# Altium schematic symbol library BeagleBone-AI_Library.SchLib: 164 symbols (part 13 of 14)
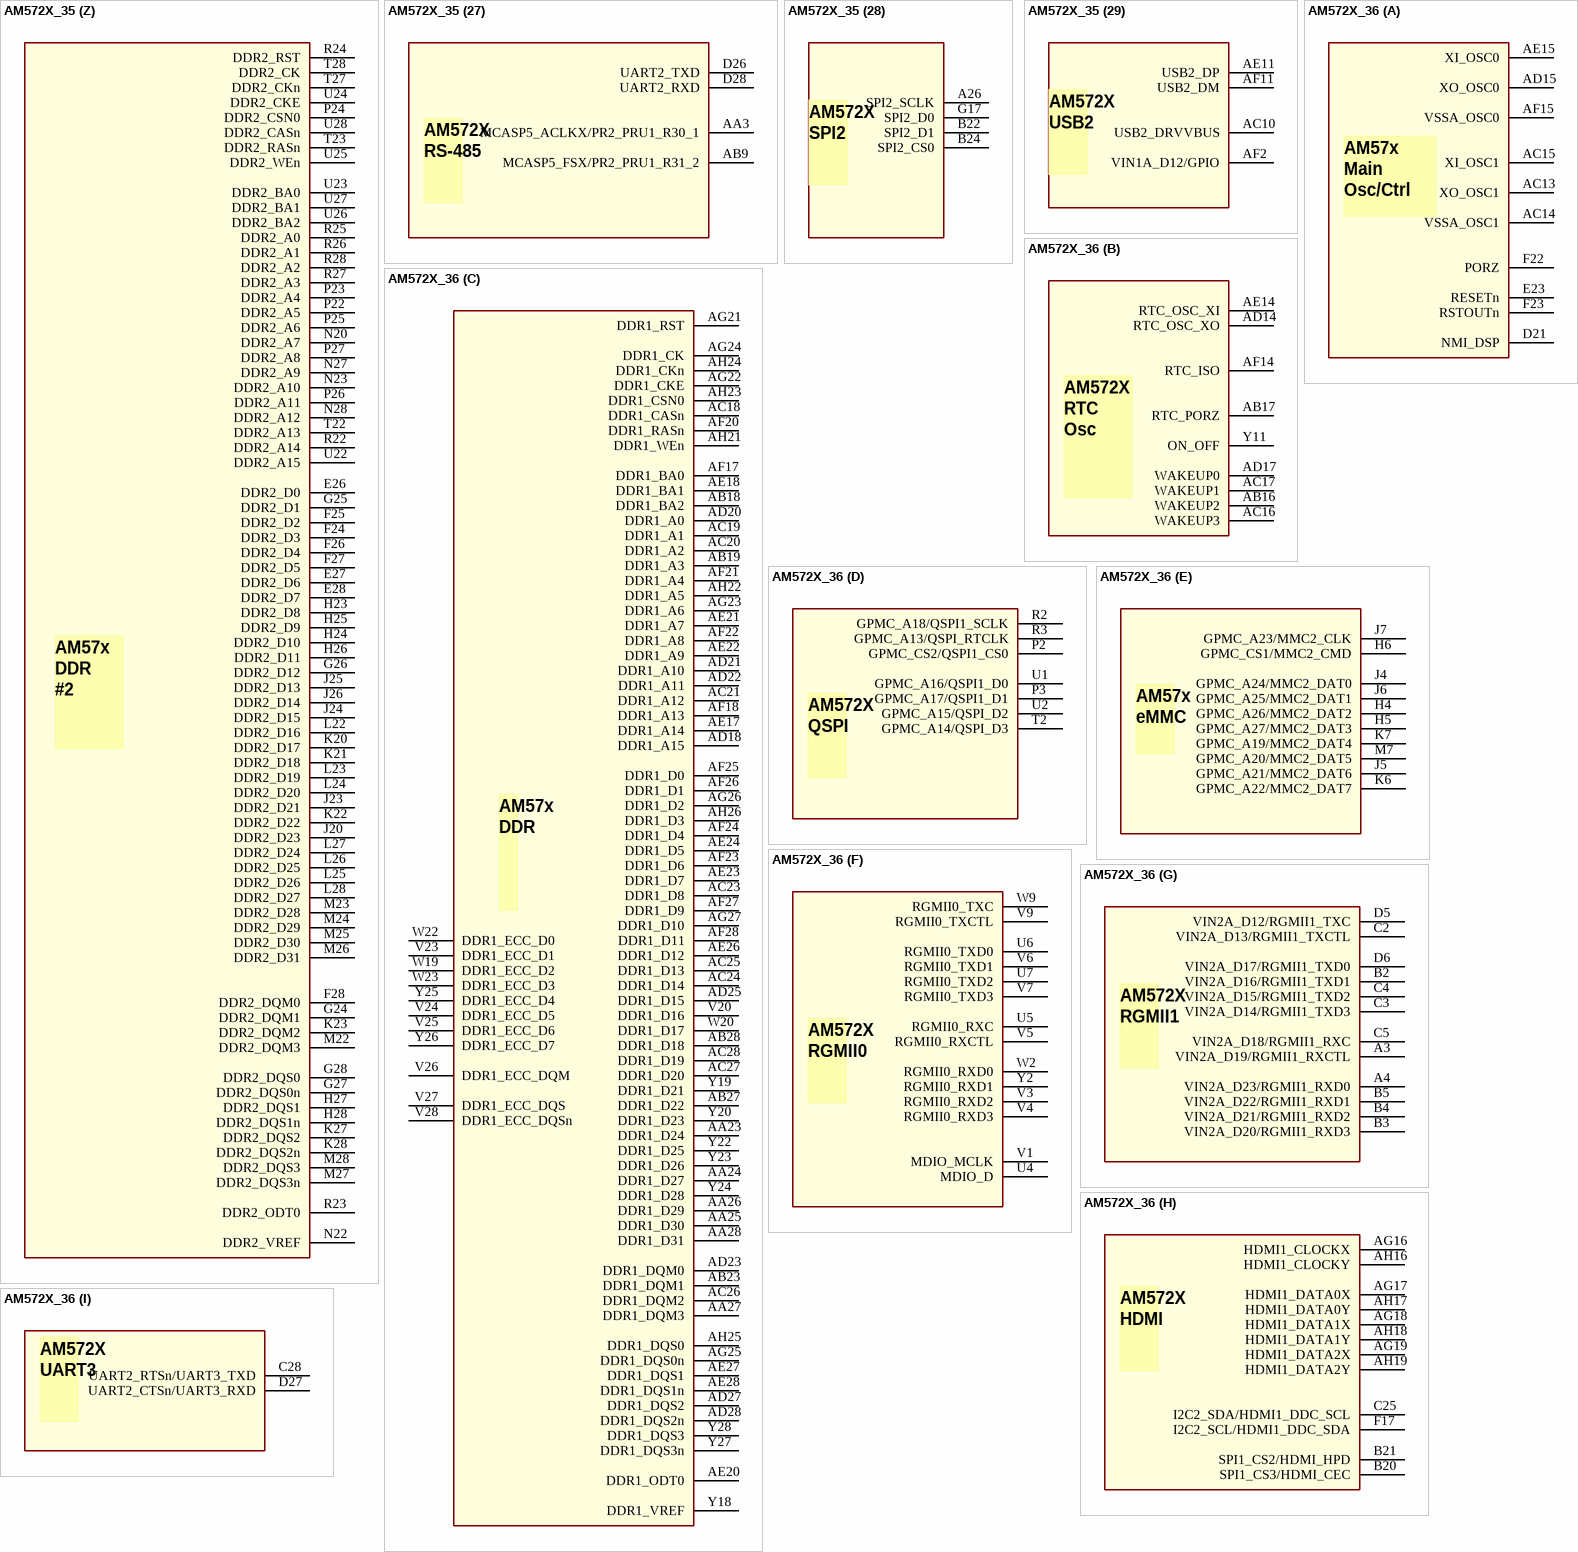
[diagram p173: symbols AM572X_35 to AM572X_36]

## AM572X_35
designator U?
Vendor: TI
footprint BGA23X23-760-117M
part A pins: AC13 XO_OSC1, AC14 VSSA_OSC1 (power), AC15 XI_OSC1, AD15 XO_OSC0, AE15 XI_OSC0, AF15 VSSA_OSC0 (power), D21 NMI_DSP, E23 RESETn, F22 PORZ, F23 RSTOUTn
part B pins: AB16 WAKEUP2, AB17 RTC_PORZ, AC16 WAKEUP3, AC17 WAKEUP1, AD14 RTC_OSC_XO, AD17 WAKEUP0, AE14 RTC_OSC_XI, AF14 RTC_ISO, Y11 ON_OFF
part C pins: AA23 DDR1_D24, AA24 DDR1_D27, AA25 DDR1_D30, AA26 DDR1_D29, AA27 DDR1_DQM3, AA28 DDR1_D31, AB18 DDR1_BA2, AB19 DDR1_A3, AB23 DDR1_DQM1, AB27 DDR1_D22, AB28 DDR1_D18, AC18 DDR1_CASn, AC19 DDR1_A1, AC20 DDR1_A2, AC21 DDR1_A12, AC23 DDR1_D8, AC24 DDR1_D14, AC25 DDR1_D13, AC26 DDR1_DQM2, AC27 DDR1_D20, AC28 DDR1_D19, AD18 DDR1_A15, AD20 DDR1_A0, AD21 DDR1_A10, AD22 DDR1_A11, AD23 DDR1_DQM0, AD25 DDR1_D15, AD27 DDR1_DQS2, AD28 DDR1_DQS2n, AE17 DDR1_A14, AE18 DDR1_BA1, AE20 DDR1_ODT0, AE21 DDR1_A7, AE22 DDR1_A9, AE23 DDR1_D7, AE24 DDR1_D5, AE26 DDR1_D12, AE27 DDR1_DQS1, AE28 DDR1_DQS1n, AF17 DDR1_BA0, AF18 DDR1_A13, AF20 DDR1_RASn, AF21 DDR1_A4, AF22 DDR1_A8, AF23 DDR1_D6, AF24 DDR1_D4, AF25 DDR1_D0, AF26 DDR1_D1, AF27 DDR1_D9, AF28 DDR1_D11, AG21 DDR1_RST, AG22 DDR1_CKE, AG23 DDR1_A6, AG24 DDR1_CK, AG25 DDR1_DQS0n, AG26 DDR1_D2, AG27 DDR1_D10, AH21 DDR1_WEn, AH22 DDR1_A5, AH23 DDR1_CSN0, AH24 DDR1_CKn, AH25 DDR1_DQS0, AH26 DDR1_D3, V20 DDR1_D16, V23 DDR1_ECC_D1, V24 DDR1_ECC_D5, V25 DDR1_ECC_D6, V26 DDR1_ECC_DQM, V27 DDR1_ECC_DQS, V28 DDR1_ECC_DQSn, W19 DDR1_ECC_D2, W20 DDR1_D17, W22 DDR1_ECC_D0, W23 DDR1_ECC_D3, Y18 DDR1_VREF, Y19 DDR1_D21, Y20 DDR1_D23, Y22 DDR1_D25, Y23 DDR1_D26, Y24 DDR1_D28, Y25 DDR1_ECC_D4, Y26 DDR1_ECC_D7, Y27 DDR1_DQS3n, Y28 DDR1_DQS3
part D pins: P2 GPMC_CS2/QSPI1_CS0, P3 GPMC_A17/QSPI1_D1, R2 GPMC_A18/QSPI1_SCLK, R3 GPMC_A13/QSPI_RTCLK, T2 GPMC_A14/QSPI_D3, U1 GPMC_A16/QSPI1_D0, U2 GPMC_A15/QSPI_D2
part E pins: H4 GPMC_A26/MMC2_DAT2, H5 GPMC_A27/MMC2_DAT3, H6 GPMC_CS1/MMC2_CMD, J4 GPMC_A24/MMC2_DAT0, J5 GPMC_A21/MMC2_DAT6, J6 GPMC_A25/MMC2_DAT1, J7 GPMC_A23/MMC2_CLK, K6 GPMC_A22/MMC2_DAT7, K7 GPMC_A19/MMC2_DAT4, M7 GPMC_A20/MMC2_DAT5
part F pins: U4 MDIO_D, U5 RGMII0_RXC, U6 RGMII0_TXD0, U7 RGMII0_TXD2, V1 MDIO_MCLK, V3 RGMII0_RXD2, V4 RGMII0_RXD3, V5 RGMII0_RXCTL, V6 RGMII0_TXD1, V7 RGMII0_TXD3, V9 RGMII0_TXCTL, W2 RGMII0_RXD0, W9 RGMII0_TXC, Y2 RGMII0_RXD1
part G pins: A3 VIN2A_D19/RGMII1_RXCTL, A4 VIN2A_D23/RGMII1_RXD0, B2 VIN2A_D16/RGMII1_TXD1, B3 VIN2A_D20/RGMII1_RXD3, B4 VIN2A_D21/RGMII1_RXD2, B5 VIN2A_D22/RGMII1_RXD1, C2 VIN2A_D13/RGMII1_TXCTL, C3 VIN2A_D14/RGMII1_TXD3, C4 VIN2A_D15/RGMII1_TXD2, C5 VIN2A_D18/RGMII1_RXC, D5 VIN2A_D12/RGMII1_TXC, D6 VIN2A_D17/RGMII1_TXD0
part H pins: AG16 HDMI1_CLOCKX, AG17 HDMI1_DATA0X, AG18 HDMI1_DATA1X, AG19 HDMI1_DATA2X, AH16 HDMI1_CLOCKY, AH17 HDMI1_DATA0Y, AH18 HDMI1_DATA1Y, AH19 HDMI1_DATA2Y, B20 SPI1_CS3/HDMI_CEC, B21 SPI1_CS2/HDMI_HPD, C25 I2C2_SDA/HDMI1_DDC_SCL, F17 I2C2_SCL/HDMI1_DDC_SDA
part I pins: C28 UART2_RTSn/UART3_TXD, D27 UART2_CTSn/UART3_RXD
part J pins: F2 VIN2A_D0/PR1_UART0_RXD, F3 VIN2A_D1/PR1_UART0_TXD, F4 VIN2A_D5/PR1_PRU1_R30_2, U3 RMII50MHZCLK/PR2_GPIO
part K pins: V2 UART3_RXD/PR1_MII0_RXDV, Y1 UART3_TXD/PR1_MII0_MR0CLK
part L pins: C1 VIN2A_D6/PR1_MII_MT1_CLK, D3 VIN2A_D10/PR1_MDIO_MDCLK, E4 VIN2A_D7/PR1_MII1_TXEN, E6 VIN2A_D9/PR1_MII1_TXD2, F5 VIN2A_D8/PR1_MII1_TXD3, F6 VIN2A_D11/PR1_MDIO_DATA
part M pins: A11 MCASP1_AXR9/PR2_MII0_TXD3, A12 MCASP1_AXR11/PR2_MII0_TXD1, A13 MCASP1_AXR13/PR2_MII_MR0_CLK, A16 MCASP2_AXR3/PR2_MII0_RXLINK, A18 MCASP2_FSX/PR2_MII0_RXD1, A19 MCASP2_ACLKX/PR2_MII0_RXD2, B12 MCASP1_AXR8/PR2_MII0_TXEN, B13 MCASP1_AXR10/PR2_MII0_TXD2, B18 MCASP3_ACLKX/PR2_MII0_CRS, C14 MCASP1_ACLKX/PR2_MDIO_MDCLK, C15 MCASP2_AXR2/PR2_MII0_RXD0, D14 MCASP1_FSX/PR2_MDIO_DATA, E14 MCASP1_AXR12/PR2_MII0_TXD0, F12 MCASP1_AXR1/PR2_MII_MT0_CLK, F14 MCASP1_AXR15/PR2_MII0_RXD3, F15 MCASP3_FSX/PR2_MII0_COL, G12 MCASP1_AXR0/PR2_MII0_RXER, G14 MCASP1_AXR14/PR2_MII0_RXDV
part N pins: AB4 GPIO6_11/PR2_MII1_TXEN, AB5 MMC3_DAT7/PR2_MII1_RXD0, AB8 MMC3_DAT6/PR2_MII1_RXD1, AC3 MMC3_DAT3/PR2_MII1_RXDV, AC4 MMC3_CMD/PR2_MII1_TXD2, AC5 GPIO6_10/PR2_MII_MT1_CLK, AC6 MMC3_DAT1/PR2_MII1_TXD0, AC7 MMC3_DAT0/PR2_MII1_TXD1, AC8 MMC3_DAT4/PR2_MII1_RXD3, AC9 MMC3_DAT2/PR2_MII_MR1_CLK, AD4 MMC3_CLK/PR2_MII1_TXD3, AD6 MMC3_DAT5/PR2_MII1_RXD2, B19 MCASP3_AXR0/PR2_MII1_RXER, C17 MCASP3_AXR1/PR2_MII1_RXLINK, D18 XREF_CLK0/PR2_MII1_COL, E17 XREF_CLK1/PR2_MII1_CRS
part O pins: AA5 MMC1_DAT2, AA6 MMC1_DAT0, W6 MMC1_CLK, W7 MMC1_SDCD, Y3 MMC1_DAT3, Y4 MMC1_DAT1, Y6 MMC1_CMD, Y9 MMC1_SDWP
part P pins: AG13 PCIE_RXN0, AG14 PCIE_TXN0, AG15 LJCB_CLKP, AH13 PCIE_RXP0, AH14 PCIE_TXP0, AH15 LJCB_CLKN
part Q pins: AB10 USB1_DRVVBUS, AC11 USB_TXN0, AC12 USB1_DM, AD11 USB_TXP0, AD12 USB1_DP, AE12 USB_RXP0, AF12 USB_RXN0
part R pins: C20 I2C1_SCL, C21 I2C1_SDA
part S pins: D20 TRSTn, D23 TDI, D24 EMU1, E18 RTCK, E20 TCK, F18 TMS, F19 TDO, G21 EMU0
part T pins: A5 VOUT1_D12, A7 VOUT1_D18, A8 VOUT1_D19, A9 VOUT1_D21, A10 VOUT1_D23, B7 VOUT1_D16, B8 VOUT1_D17, B9 VOUT1_D22, B10 VOUT1_DE, C6 VOUT1_D13, C7 VOUT1_D15, C8 VOUT1_D14, C9 VOUT1_D20, C11 VOUT1_HSYNC, D1 VIN2A_D2/eCAP1_IN_PWM1, D7 VOUT1_D10, D8 VOUT1_D11, D9 VOUT1_D9, D11 VOUT1_CLK, E7 VOUT1_D7, E8 VOUT1_D8, E9 VOUT1_D4, E11 VOUT1_VSYNC, F8 VOUT1_D6, F9 VOUT1_D5, F10 VOUT1_D2, F11 VOUT1_D0, G10 VOUT1_D1, G11 VOUT1_D3
part U pins: A21 MCASP4_FSX/SPI3_D1, AF4 VIN1A_D15/GPIO, C18 MCASP4_ACLKX/SPI3_SCLK, D17 MCASP4_AXR1/SPI3_CS0
part V pins: A15 MCASP2_AXR1, A17 MCASP2_AXR7, A20 MCASP2_FSR, A22 SPI1_CS1, A24 SPI1_CS0, A25 SPI1_SCLK, AA1 MLBP_DAT_P, AA2 MLBP_DAT_N, AA4 MCASP5_AXR1/GPIO, AB1 MLBP_CLK_P, AB2 MLBP_CLK_N, AB3 MCASP5_AXR0/GPIO, AC1 MLBP_SIG_P, AC2 MLBP_SIG_N, AD2 VIN1A_D22, AD3 VIN1A_D23, AD8 VIN1A_D1, AD9 VIN1A_DE0, AE1 VIN1A_D19, AE2 VIN1A_D20, AE3 VIN1A_D17, AE5 VIN1A_D18, AE6 VIN1A_D21, AE8 VIN1A_D0, AE9 VIN1A_HSYNC0, AF1 VIN1A_D16, AF3 VIN1A_D14, AF6 VIN1A_D13, AF8 VIN1A_VSYNC0, AF9 VIN1A_FLD0, AG2 VIN1A_D9, AG3 VIN1A_D10, AG4 VIN1A_D8, AG5 VIN1A_D11, AG6 VIN1A_D6, AG7 VIN1A_D2, AG8 VIN1A_CLK0, AG9 SATA1_RXP0, AG10 SATA1_TXN0, AG11 PCIE_RXN1, AG12 PCIE_TXN1, AH3 VIN1A_D4, AH4 VIN1A_D7, AH5 VIN1A_D5, AH6 VIN1A_D3, AH7 VIN1B_CLK1, AH9 SATA1_RXN0, AH10 SATA1_TXP0, AH11 PCIE_RXP1, AH12 PCIE_TXP1, B11 VOUT1_FLD, B14 MCASP1_ACLKR, B15 MCASP2_AXR0, B16 MCASP2_AXR5, B17 MCASP2_AXR6, B25 SPI1_D0, B26 XREF_CLK2, B27 UART1_RXD/GPIO, C12 MCASP1_AXR6, C26 UART1_TXD/GPIO, C27 UART1_RTSn/GPIO, D2 VIN2A_D4, D12 MCASP1_AXR7, D15 MCASP2_AXR4, E1 VIN2A_CLK0, E2 VIN2A_D3, E12 MCASP1_AXR4, E15 MCASP2_ACLKR, E21 GPIO6_14, E25 UART1_CTSn/GPIO, F13 MCASP1_AXR5, F16 SPI1_D1, F20 GPIO6_15, F21 GPIO6_16, G1 VIN2A_HSYNC0, G2 VIN2A_DE0, G6 VIN2A_VSYNC0, G13 MCASP1_AXR2, G16 MCASP4_AXR0/SPI3_D0, H1 GPMC_AD12, H2 GPMC_AD14, H3 GPMC_AD15, H7 VIN2A_FLD0, J1 GPMC_AD10, J2 GPMC_AD11, J3 GPMC_AD13, J11 MCASP1_AXR3, J14 MCASP1_FSR, K2 GPMC_AD9, L1 GPMC_AD8, L2 GPMC_AD7/GPIO, L3 GPMC_AD6/GPIO, L4 GPMC_AD5/GPIO, L5 GPMC_AD2/GPIO, L6 GPMC_AD4/GPIO, M1 GPMC_AD3/GPIO, M2 GPMC_AD1/GPIO, M3 GPMC_WEN, M4 GPMC_BEN1, M5 GPMC_OEN_REN, M6 GPMC_AD0/GPIO, N1 GPMC_ADVN_ALE, N2 GPMC_WAIT0, N6 GPMC_BEN0, P1 GPMC_CS3/GPIO, P7 GPMC_CLK, T1 GPMC_CS0
part W pins: G19 DCAN1_RX, G20 DCAN1_TX
part X pins: C23 XREF_CLK3/CLKOUT3, N7 GPMC_A8/VIN4B_HSYNC1, N9 GPMC_A10/VIN4B_CLK1, P4 GPMC_A12/VIN4B_FLD1, P5 GPMC_A7/VIN4B_D7, P6 GPMC_A4/VIN4B_D4, P9 GPMC_A11/VIN4B_DE1, R4 GPMC_A9/VIN4B_VSYNC1, R5 GPMC_A6/VIN4B_D6, R6 GPMC_A0/VIN4B_D0, R9 GPMC_A5/VIN4B_D5, T6 GPMC_A2/VIN4B_D2, T7 GPMC_A3/VIN4B_D3, T9 GPMC_A1/VIN4B_D1
part Y pins: A1 VSS (power), A2 VSS (power), A6 VSS (power), A14 VSS (power), A23 VSS (power), A27 RSVA27, A28 VSS (power), AA7 VDDS_MLBP (power), AA8 VSS (power), AA9 VSS (power), AA10 VSS (power), AA11 VSSA_USB (power), AA12 VDDA33V_USB1 (power), AA13 VDDA_USB1 (power), AA14 VSS (power), AA15 VSS (power), AA16 VDDA_PCIE1 (power), AA17 VDDA_PCIE0 (power), AA18 VDDS18V_DDR1 (power), AA19 VDDS18V_DDR1 (power), AA20 VSS (power), AA21 VDDS_DDR1 (power), AA22 VDDS_DDR1 (power), AB6 VDDSHV7 (power), AB7 VDDSHV7 (power), AB11 VSSA_USB (power), AB12 VDDA_USB2 (power), AB13 VDDA_RTC (power), AB14 VSS (power), AB15 VDD_RTC (power), AB20 VSS (power), AB21 VDDS_DDR1 (power), AB22 VDDS_DDR1 (power), AB24 VDDS_DDR1 (power), AB25 VDDS_DDR1 (power), AC22 VDDS_DDR1 (power), AD1 VSS (power), AD5 VDDSHV6 (power), AD7 VDDSHV6 (power), AD10 VSSA_USB3 (power), AD13 VSSA_PCIE (power), AD16 VDDA_OSC (power), AD19 VSSA_HDMI (power), AD24 VSS (power), AD26 VDDS_DDR1 (power), AE7 VDDSHV6 (power), AE10 VSSA_SATA (power), AE13 VSSA_PCIE (power), AE16 VDDA_OSC (power), AE19 VSSA_HDMI (power), AF5 VDDSHV6 (power), AG1 VSS (power), AG20 VDDS_DDR1 (power), AG28 VDDS_DDR1 (power), AH1 VSS (power), AH2 VSS (power), AH8 VSS (power), AH20 VSS (power), AH27 VDDS_DDR1 (power), AH28 VSS (power), B1 VSS (power), B6 VDDSHV2 (power), B23 VDDSHV3 (power), B28 RSVB28, C24 VDDSHV4 (power), D10 VDDSHV2 (power), D13 VSS (power), D16 VDDSHV3 (power), D19 VSS (power), D22 VDDSHV3 (power), E3 VDDSHV1 (power), E5 VDDSHV1 (power), E10 VDDSHV2 (power), E13 VSS (power), E16 VDDSHV3 (power), E19 VSS (power), E22 VDDSHV3 (power), E24 VDDS_DDR2 (power), F1 VSS (power), F7 VSS (power), G4 VDDSHV1 (power), G5 VDDSHV1 (power), G7 VSS (power), G8 VSS (power), G9 VSS (power), G15 VDDSHV3 (power), G18 VDDS18V (power), G22 VDDS_DDR2 (power), G23 VDDS_DDR2 (power), H8 VDDSHV1 (power), H9 VDDSHV1 (power), H10 VDDSHV2 (power), H11 VDDSHV2 (power), H12 VSS (power), H13 VDD (power), H14 VDD (power), H15 VDDSHV3 (power), H16 VDDSHV3 (power), H17 VDDS18V (power), H18 VDDSHV3 (power), H19 VDDSHV3 (power), H20 VDDS_DDR2 (power), H21 VDDS_DDR2 (power), H22 VDDS_DDR2 (power), J8 VDDSHV11 (power), J9 CAP_VDDRAM_DSPEVE2, J10 CAP_VDDRAM_DSPEVE1, J12 VSS (power), J13 VDD_DSPEVE (power), J15 VSS (power), J16 CAP_VBBLDO_MPU, J17 VDD (power), J18 VDD (power), J19 CAP_VDDRAM_CORE2, J21 VDDS18V_DDR2 (power), J22 VDDS18V_DDR2 (power), J27 VDDS_DDR2 (power), J28 VSS (power), K1 VSS (power), K4 VSS (power), K5 VSS (power), K8 VDDSHV11 (power), K9 CAP_VBBLDO_DSPEVE, K10 VDD_DSPEVE (power), K11 VDD_DSPEVE (power), K12 VDD_DSPEVE (power), K13 VDD_DSPEVE (power), K14 RSVK14, K15 VSS (power), K16 CAP_VDDRAM_MPU1, K17 VDD_MPU (power), K18 VDD_MPU (power), K19 CAP_VDDRAM_MPU2, K24 VSS (power), K25 VSS (power), L7 VDD (power), L8 VDD (power), L9 CAP_VDDRAM_CORE1, L10 VDD_DSPEVE (power), L11 VDD_DSPEVE (power), L12 VDD_DSPEVE (power), L13 VSS (power), L14 VSS (power), L15 VDD_MPU (power), L16 VDD_MPU (power), L17 VDD_MPU (power), L18 VDD_MPU (power), L19 VDD_MPU (power), L20 VDDS_DDR2 (power), L21 VDDS_DDR2 (power), M8 VDDS18V (power), M9 VDDS18V (power), M10 VDD_DSPEVE (power), M11 VDD_DSPEVE (power), M12 VDD_DSPEVE (power), M13 VDD_DSPEVE (power), M14 VDDA_ABE_PER (power), M15 VDD_MPU (power), M16 VDD_MPU (power), M17 VDD_MPU (power), M18 VDD_MPU (power), M19 VSS (power), M20 VDDS_DDR2 (power), M21 VDDS_DDR2 (power), N4 VDDSHV10 (power), N5 VDDSHV10 (power), N8 VDDS18V (power), N10 VDD (power), N11 VDDA_DEBUG (power), N12 VDDA_DSP_EVE (power), N13 VDD (power), N14 VSS (power), N15 VSS (power), N16 VDDA_MPU (power), N17 VDD_MPU (power), N18 VDD_MPU (power), N19 VSS (power), N21 VDDS18V_DDR2 (power), N24 VSS (power), N25 VSS (power), P8 VDDS18V (power), P10 VDDSHV10 (power), P11 VDD (power), P12 VDD (power), P13 VDD (power), P14 VDDA_VIDEO (power), P15 VDDA_GMAC_CORE (power), P16 VDDA_DDR (power), P17 VDD_MPU (power), P18 VDD_MPU (power), P19 CAP_VDDRAM_CORE4, P20 VDDS18V_DDR2 (power), P21 VDDS18V_DDR2 (power), P28 VSS (power), R1 VSS (power), R7 VDDSHV10 (power), R8 VDDS18V (power), R10 VDDSHV10 (power), R11 VDD (power), R12 VSS (power), R13 VSS (power), R14 VDDA_GPU (power), R15 VSS (power), R16 VDD (power), R17 VDDA_IVA (power), R18 VDD_MPU (power), R19 VDD (power), R20 CAP_VBBLDO_IVA, R21 VSS (power), T4 VDDSHV10 (power), T5 VDDSHV10 (power), T8 VDDS18V (power), T10 VSS (power), T11 VSS (power), T12 VSS (power), T13 VDD (power), T14 VSS (power), T15 VSS (power), T16 VDD (power), T17 VSS (power), T18 VSS (power), T19 VDD (power), T20 CAP_VDDRAM_IVA, T21 VSS (power), T24 VDDS_DDR2 (power), T25 VDDS_DDR2 (power), U8 VDD (power), U9 VDD (power), U10 VDDSHV9 (power), U11 VDD_GPU (power), U12 VDD_GPU (power), U13 VDD (power), U14 VSSA_VIDEO (power), U15 VSS (power), U16 VDD (power), U17 VSS (power), U18 VDD_IVA (power), U19 VDD_IVA (power), U20 VSS (power), U21 VSS (power), V8 VDD (power), V10 VDD_GPU (power), V11 VDD_GPU (power), V12 VDDSHV5 (power), V13 VDDA_SATA (power), V14 VDD_GPU (power), V15 VSS (power), V16 VDD (power), V17 VSS (power), V18 VDD_IVA (power), V19 VDD_IVA (power), V21 VDDS18V (power), V22 VDDS18V (power), W1 VSS (power), W4 VDDSHV9 (power), W5 VDDSHV9 (power), W8 VDDSHV8 (power), W10 VDD_GPU (power), W11 VDD_GPU (power), W12 VDDA_USB3 (power), W13 VDD_GPU (power), W14 VDDA_PCIE (power), W15 VSS (power), W16 VDDS_DDR1 (power), W17 VDDS18V (power), W18 VDDS18V (power), W21 VDDS18V_DDR1 (power), W24 VSS (power), W25 VSS (power), W27 VDDS_DDR1 (power), W28 VSS (power), Y5 RSVY5, Y7 VDDS_MLBP (power), Y8 VDDSHV8 (power), Y10 RSVY10, Y12 VDDA33V_USB2 (power), Y13 CAP_VDDRAM_GPU, Y14 CAP_VBBLDO_GPU, Y15 CAP_VDDRAM_CORE3, Y16 CAP_VDDRAM_CORE5, Y17 VDDA_HDMI (power), Y21 VDDS18V_DDR1 (power)
part Z pins: E26 DDR2_D0, E27 DDR2_D6, E28 DDR2_D7, F24 DDR2_D3, F25 DDR2_D2, F26 DDR2_D4, F27 DDR2_D5, F28 DDR2_DQM0, G24 DDR2_DQM1, G25 DDR2_D1, G26 DDR2_D12, G27 DDR2_DQS0n, G28 DDR2_DQS0, H23 DDR2_D8, H24 DDR2_D10, H25 DDR2_D9, H26 DDR2_D11, H27 DDR2_DQS1, H28 DDR2_DQS1n, J20 DDR2_D23, J23 DDR2_D21, J24 DDR2_D15, J25 DDR2_D13, J26 DDR2_D14, K20 DDR2_D17, K21 DDR2_D18, K22 DDR2_D22, K23 DDR2_DQM2, K27 DDR2_DQS2, K28 DDR2_DQS2n, L22 DDR2_D16, L23 DDR2_D19, L24 DDR2_D20, L25 DDR2_D26, L26 DDR2_D25, L27 DDR2_D24, L28 DDR2_D27, M22 DDR2_DQM3, M23 DDR2_D28, M24 DDR2_D29, M25 DDR2_D30, M26 DDR2_D31, M27 DDR2_DQS3n, M28 DDR2_DQS3, N20 DDR2_A7, N22 DDR2_VREF, N23 DDR2_A10, N27 DDR2_A9, N28 DDR2_A12, P22 DDR2_A5, P23 DDR2_A4, P24 DDR2_CSN0, P25 DDR2_A6, P26 DDR2_A11, P27 DDR2_A8, R22 DDR2_A14, R23 DDR2_ODT0, R24 DDR2_RST, R25 DDR2_A0, R26 DDR2_A1, R27 DDR2_A3, R28 DDR2_A2, T22 DDR2_A13, T23 DDR2_RASn, T27 DDR2_CKn, T28 DDR2_CK, U22 DDR2_A15, U23 DDR2_BA0, U24 DDR2_CKE, U25 DDR2_WEn, U26 DDR2_BA2, U27 DDR2_BA1, U28 DDR2_CASn
part 27 pins: AA3 MCASP5_ACLKX/PR2_PRU1_R30_1, AB9 MCASP5_FSX/PR2_PRU1_R31_2, D26 UART2_TXD, D28 UART2_RXD
part 28 pins: A26 SPI2_SCLK, B22 SPI2_D1, B24 SPI2_CS0, G17 SPI2_D0
part 29 pins: AC10 USB2_DRVVBUS, AE11 USB2_DP, AF2 VIN1A_D12/GPIO, AF11 USB2_DM
part A text: AM57x / Main / Osc/Ctrl /
part B text: AM572X RTC / Osc /
part C text: AM57x DDR /
part D text: AM572X / QSPI /
part E text: AM572X / eMMC /
part F text: AM572X / RGMII0 /
part G text: AM572X / RGMII1 /
part H text: AM572X / HDMI /
part I text: AM572X / UART3 /
part J text: AM572X / PR1_UART0 / ProfiBus /
part K text: AM572X / PRU1_MII0 /
part L text: AM572X / PRU1_MII1 /
part M text: AM572X / PRU2_MII0 /
part N text: AM57x / PRU2_MII1 /
part O text: AM572X / SD/MMC1 /
part P text: AM572X / PCIE /
part Q text: AM572X / USB1 /
part R text: AM572X / I2C1 /
part S text: AM572X / JTAG /
part T text: AM57XX / LCD /
part U text: AM572X / SPI3 /
part V text: AM572X GPIO & Unused / Pins /
part W text: AM572X / DCAN / #1 /
part X text: AM572X / Camera #1 /
part Y text: AM572X Power /
part Z text: AM57x DDR / #2 /
part 27 text: AM572X / RS-485 /
part 28 text: AM572X / SPI2 /
part 29 text: AM572X / USB2 /

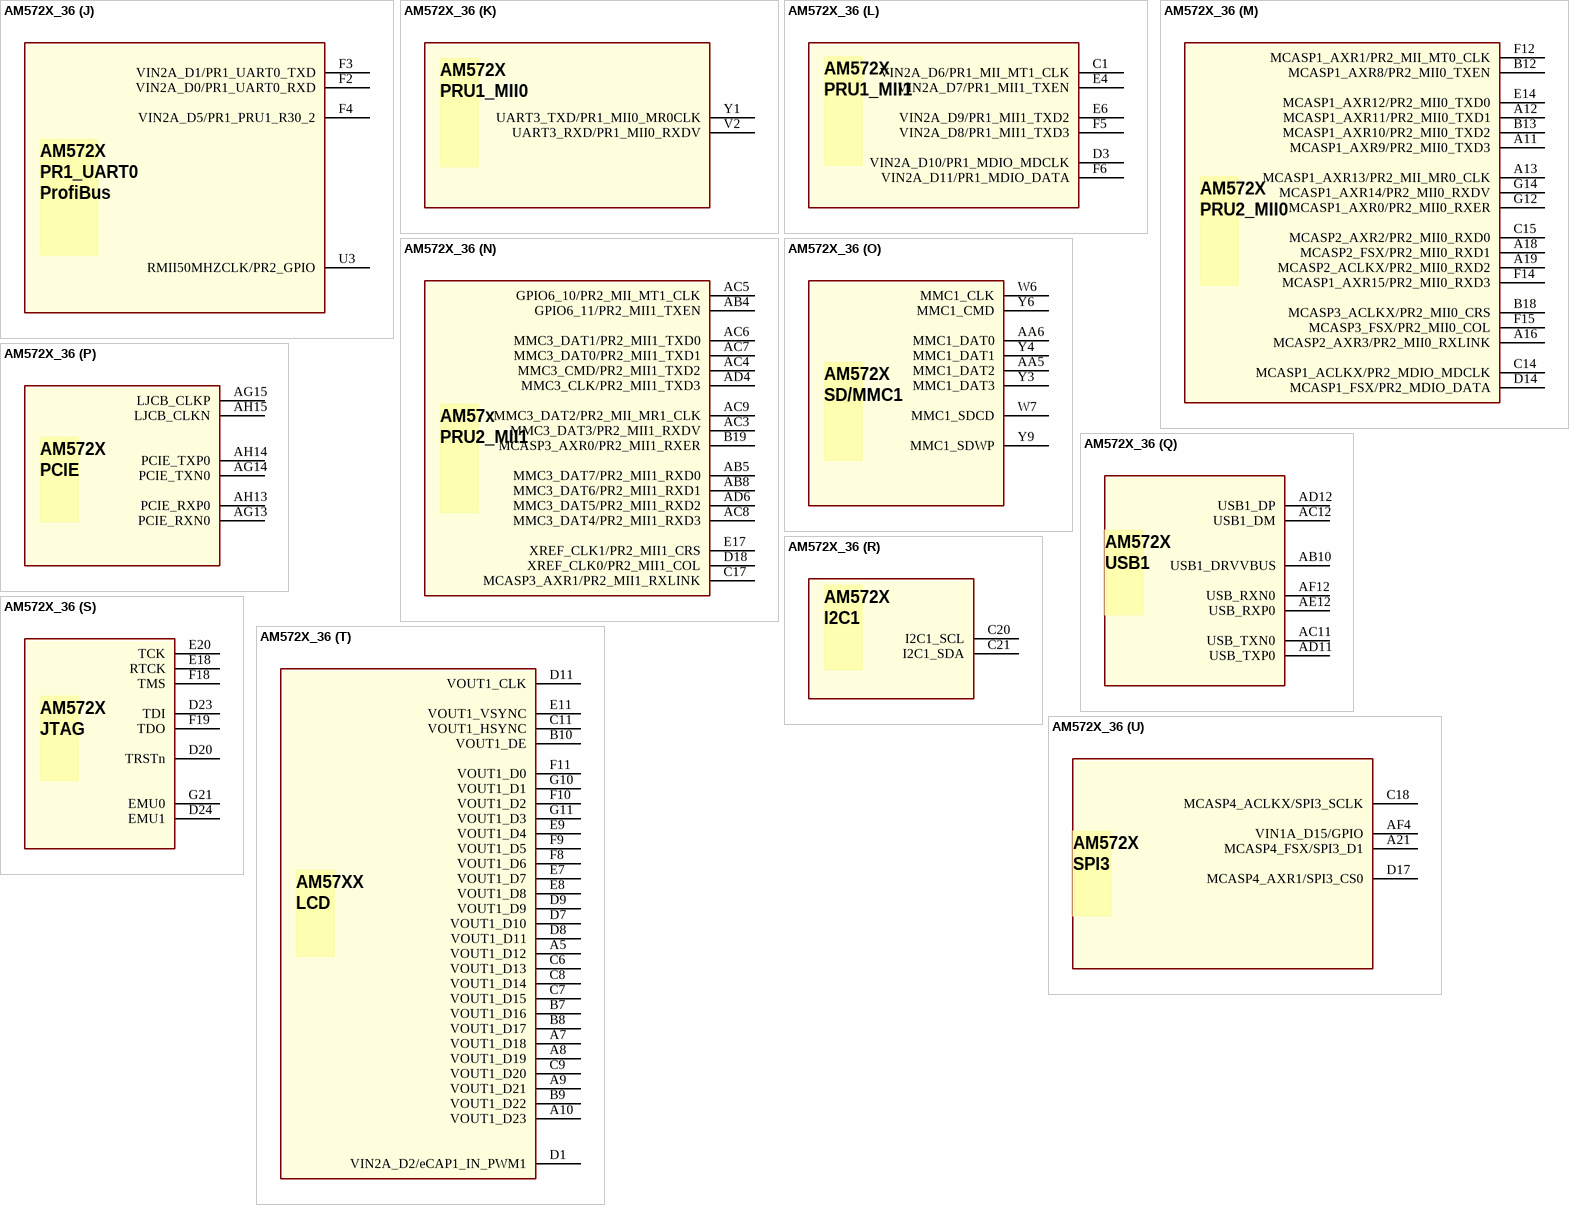
[diagram p148: symbol AM572X_36]

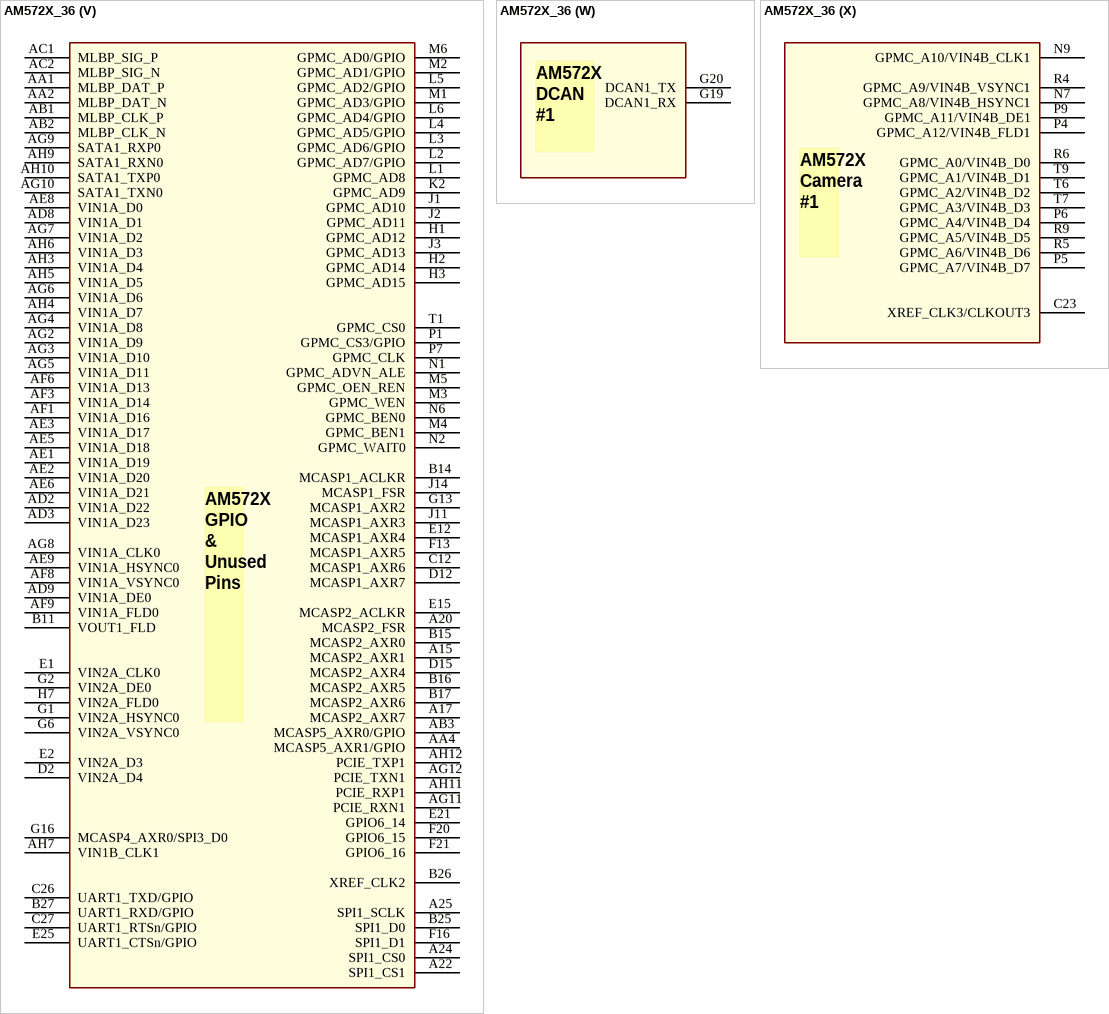
[diagram p149: symbol AM572X_36]

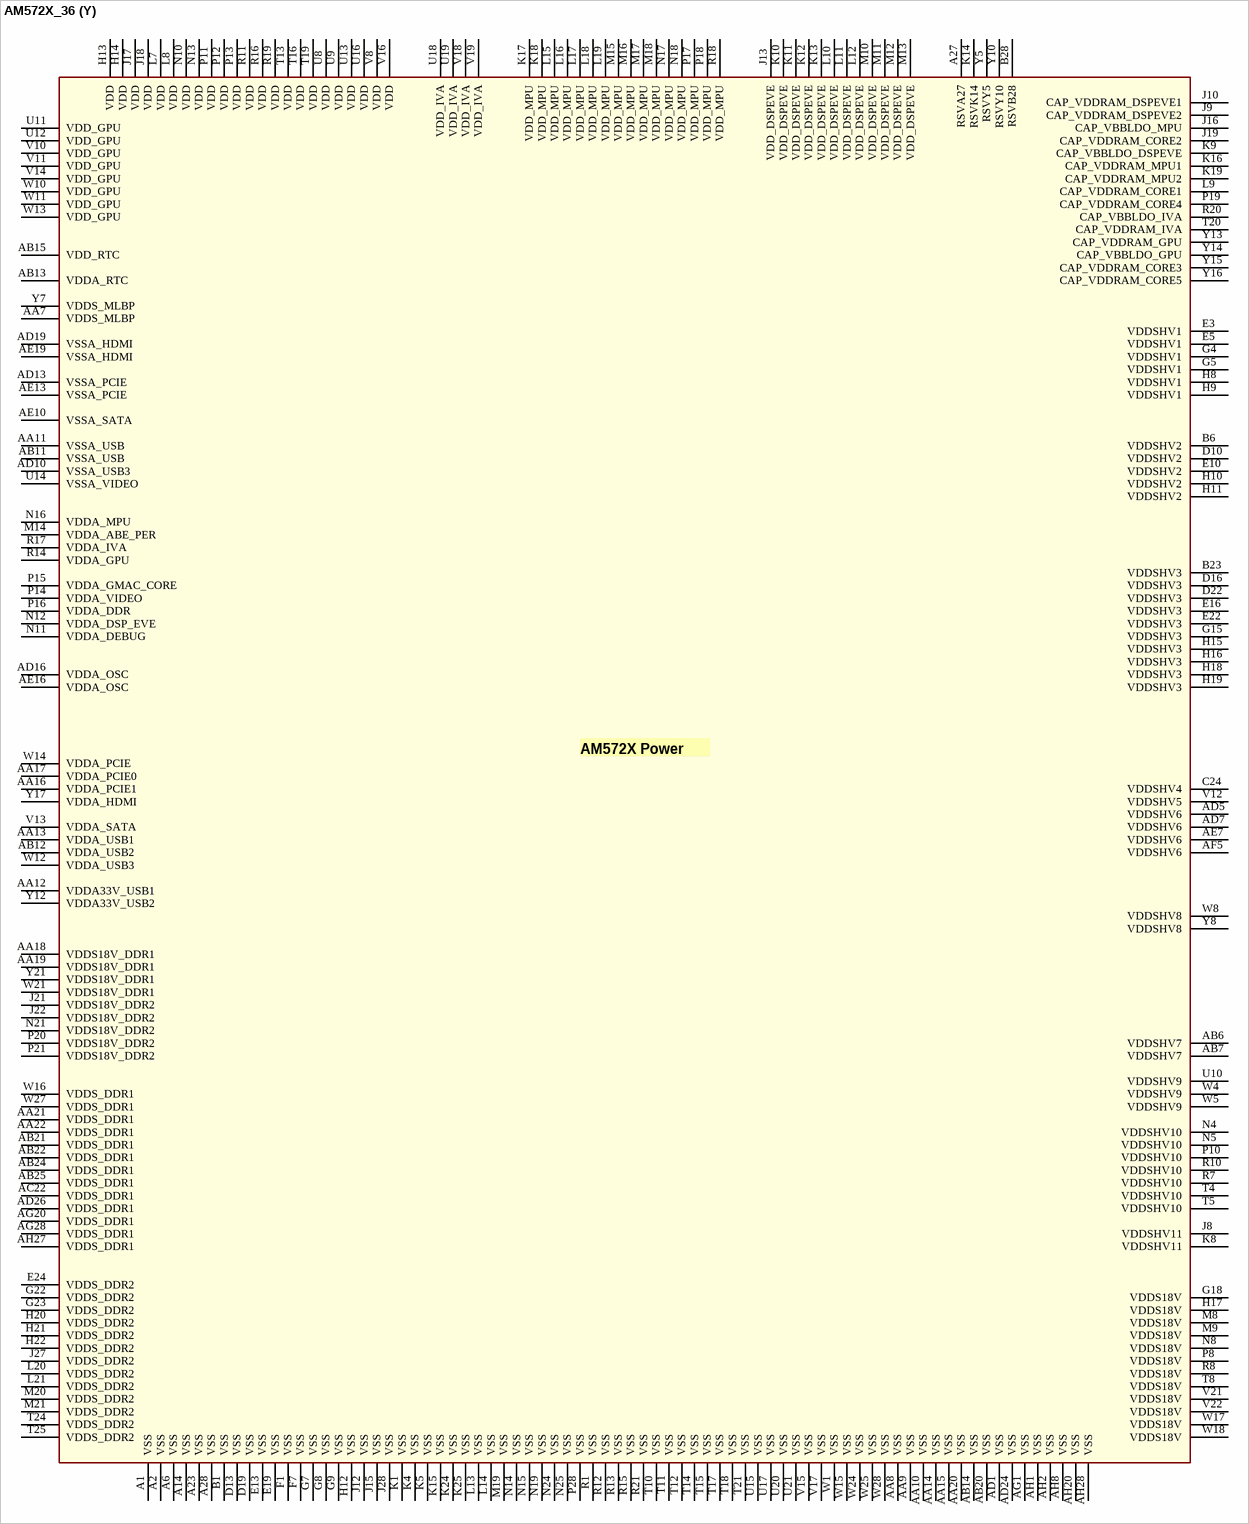
[diagram p150: symbol AM572X_36]

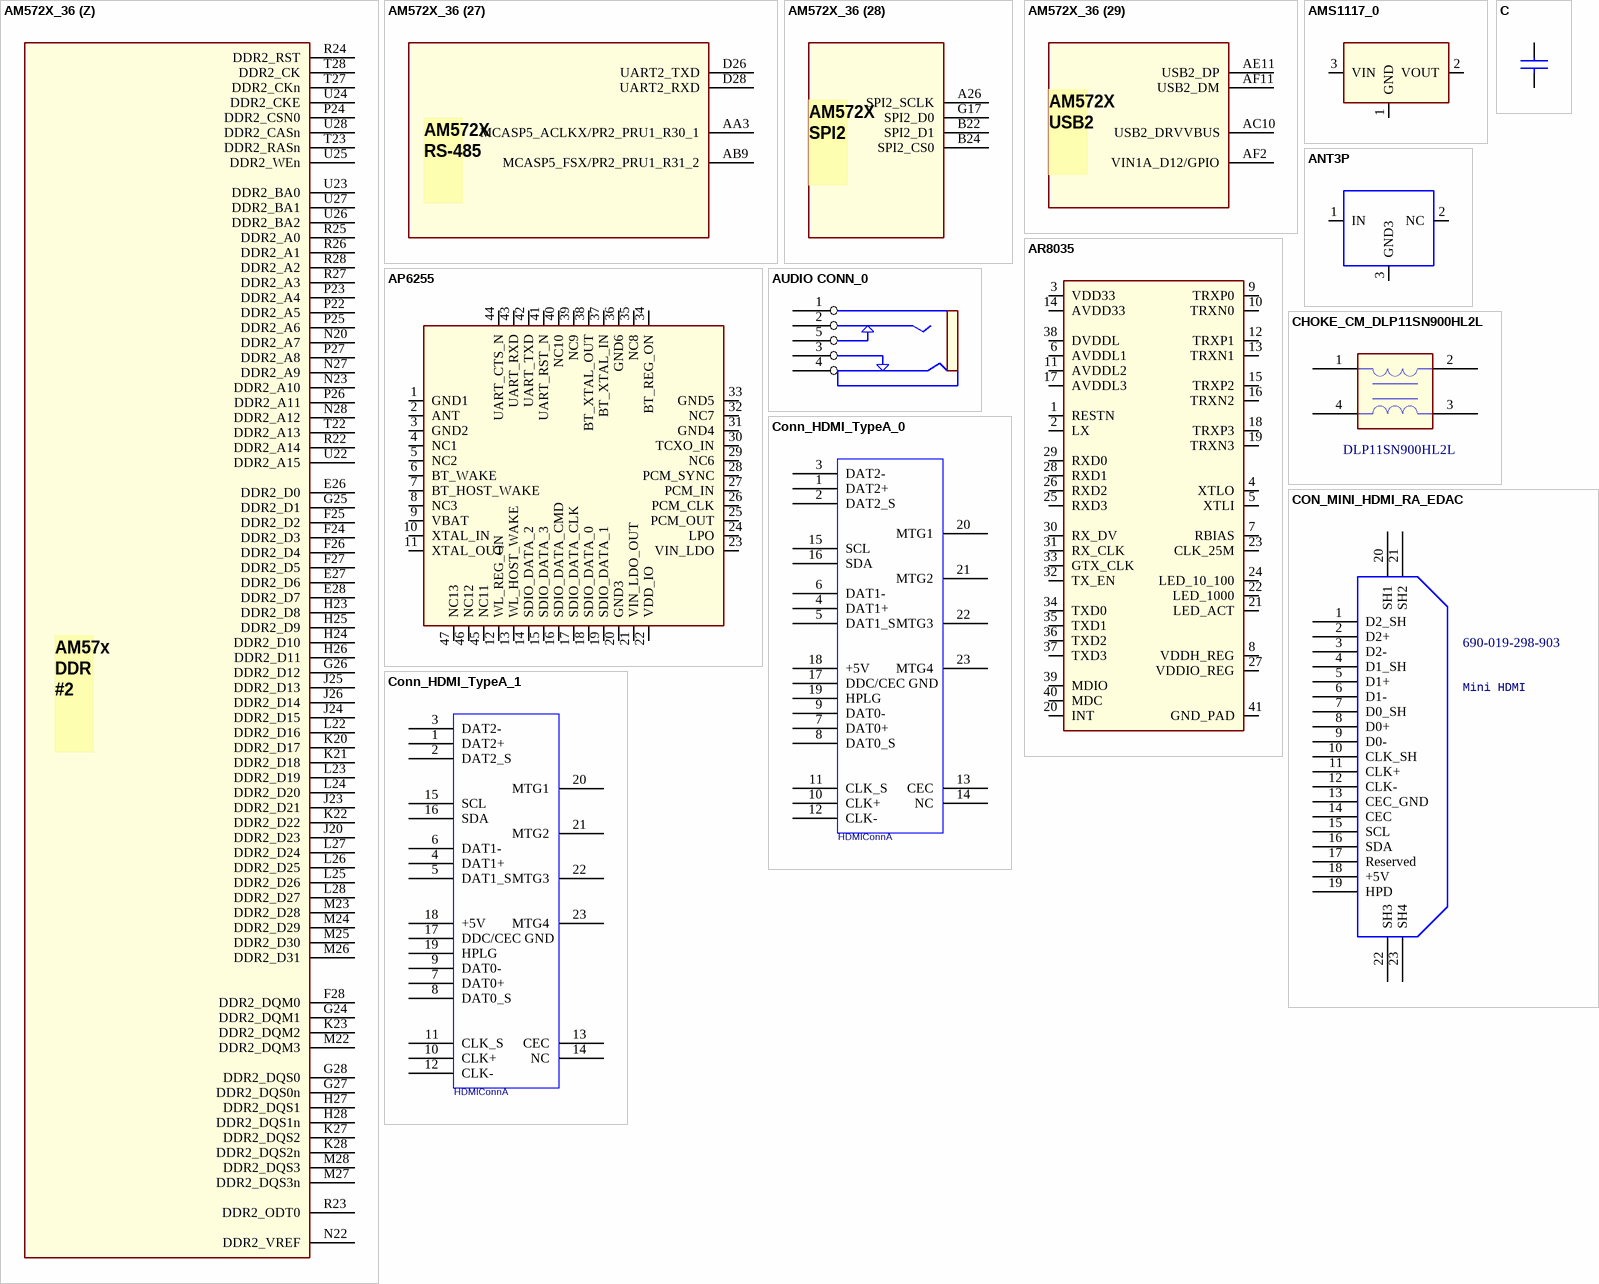
[diagram p151: symbols AM572X_36 to Conn_HDMI_TypeA_1]

## AM572X_36
designator U?
Vendor: TI
footprint BGA23X23-760-117M
part A pins: AC13 XO_OSC1, AC14 VSSA_OSC1 (power), AC15 XI_OSC1, AD15 XO_OSC0, AE15 XI_OSC0, AF15 VSSA_OSC0 (power), D21 NMI_DSP, E23 RESETn, F22 PORZ, F23 RSTOUTn
part B pins: AB16 WAKEUP2, AB17 RTC_PORZ, AC16 WAKEUP3, AC17 WAKEUP1, AD14 RTC_OSC_XO, AD17 WAKEUP0, AE14 RTC_OSC_XI, AF14 RTC_ISO, Y11 ON_OFF
part C pins: AA23 DDR1_D24, AA24 DDR1_D27, AA25 DDR1_D30, AA26 DDR1_D29, AA27 DDR1_DQM3, AA28 DDR1_D31, AB18 DDR1_BA2, AB19 DDR1_A3, AB23 DDR1_DQM1, AB27 DDR1_D22, AB28 DDR1_D18, AC18 DDR1_CASn, AC19 DDR1_A1, AC20 DDR1_A2, AC21 DDR1_A12, AC23 DDR1_D8, AC24 DDR1_D14, AC25 DDR1_D13, AC26 DDR1_DQM2, AC27 DDR1_D20, AC28 DDR1_D19, AD18 DDR1_A15, AD20 DDR1_A0, AD21 DDR1_A10, AD22 DDR1_A11, AD23 DDR1_DQM0, AD25 DDR1_D15, AD27 DDR1_DQS2, AD28 DDR1_DQS2n, AE17 DDR1_A14, AE18 DDR1_BA1, AE20 DDR1_ODT0, AE21 DDR1_A7, AE22 DDR1_A9, AE23 DDR1_D7, AE24 DDR1_D5, AE26 DDR1_D12, AE27 DDR1_DQS1, AE28 DDR1_DQS1n, AF17 DDR1_BA0, AF18 DDR1_A13, AF20 DDR1_RASn, AF21 DDR1_A4, AF22 DDR1_A8, AF23 DDR1_D6, AF24 DDR1_D4, AF25 DDR1_D0, AF26 DDR1_D1, AF27 DDR1_D9, AF28 DDR1_D11, AG21 DDR1_RST, AG22 DDR1_CKE, AG23 DDR1_A6, AG24 DDR1_CK, AG25 DDR1_DQS0n, AG26 DDR1_D2, AG27 DDR1_D10, AH21 DDR1_WEn, AH22 DDR1_A5, AH23 DDR1_CSN0, AH24 DDR1_CKn, AH25 DDR1_DQS0, AH26 DDR1_D3, V20 DDR1_D16, V23 DDR1_ECC_D1, V24 DDR1_ECC_D5, V25 DDR1_ECC_D6, V26 DDR1_ECC_DQM, V27 DDR1_ECC_DQS, V28 DDR1_ECC_DQSn, W19 DDR1_ECC_D2, W20 DDR1_D17, W22 DDR1_ECC_D0, W23 DDR1_ECC_D3, Y18 DDR1_VREF, Y19 DDR1_D21, Y20 DDR1_D23, Y22 DDR1_D25, Y23 DDR1_D26, Y24 DDR1_D28, Y25 DDR1_ECC_D4, Y26 DDR1_ECC_D7, Y27 DDR1_DQS3n, Y28 DDR1_DQS3
part D pins: P2 GPMC_CS2/QSPI1_CS0, P3 GPMC_A17/QSPI1_D1, R2 GPMC_A18/QSPI1_SCLK, R3 GPMC_A13/QSPI_RTCLK, T2 GPMC_A14/QSPI_D3, U1 GPMC_A16/QSPI1_D0, U2 GPMC_A15/QSPI_D2
part E pins: H4 GPMC_A26/MMC2_DAT2, H5 GPMC_A27/MMC2_DAT3, H6 GPMC_CS1/MMC2_CMD, J4 GPMC_A24/MMC2_DAT0, J5 GPMC_A21/MMC2_DAT6, J6 GPMC_A25/MMC2_DAT1, J7 GPMC_A23/MMC2_CLK, K6 GPMC_A22/MMC2_DAT7, K7 GPMC_A19/MMC2_DAT4, M7 GPMC_A20/MMC2_DAT5
part F pins: U4 MDIO_D, U5 RGMII0_RXC, U6 RGMII0_TXD0, U7 RGMII0_TXD2, V1 MDIO_MCLK, V3 RGMII0_RXD2, V4 RGMII0_RXD3, V5 RGMII0_RXCTL, V6 RGMII0_TXD1, V7 RGMII0_TXD3, V9 RGMII0_TXCTL, W2 RGMII0_RXD0, W9 RGMII0_TXC, Y2 RGMII0_RXD1
part G pins: A3 VIN2A_D19/RGMII1_RXCTL, A4 VIN2A_D23/RGMII1_RXD0, B2 VIN2A_D16/RGMII1_TXD1, B3 VIN2A_D20/RGMII1_RXD3, B4 VIN2A_D21/RGMII1_RXD2, B5 VIN2A_D22/RGMII1_RXD1, C2 VIN2A_D13/RGMII1_TXCTL, C3 VIN2A_D14/RGMII1_TXD3, C4 VIN2A_D15/RGMII1_TXD2, C5 VIN2A_D18/RGMII1_RXC, D5 VIN2A_D12/RGMII1_TXC, D6 VIN2A_D17/RGMII1_TXD0
part H pins: AG16 HDMI1_CLOCKX, AG17 HDMI1_DATA0X, AG18 HDMI1_DATA1X, AG19 HDMI1_DATA2X, AH16 HDMI1_CLOCKY, AH17 HDMI1_DATA0Y, AH18 HDMI1_DATA1Y, AH19 HDMI1_DATA2Y, B20 SPI1_CS3/HDMI_CEC, B21 SPI1_CS2/HDMI_HPD, C25 I2C2_SDA/HDMI1_DDC_SCL, F17 I2C2_SCL/HDMI1_DDC_SDA
part I pins: C28 UART2_RTSn/UART3_TXD, D27 UART2_CTSn/UART3_RXD
part J pins: F2 VIN2A_D0/PR1_UART0_RXD, F3 VIN2A_D1/PR1_UART0_TXD, F4 VIN2A_D5/PR1_PRU1_R30_2, U3 RMII50MHZCLK/PR2_GPIO
part K pins: V2 UART3_RXD/PR1_MII0_RXDV, Y1 UART3_TXD/PR1_MII0_MR0CLK
part L pins: C1 VIN2A_D6/PR1_MII_MT1_CLK, D3 VIN2A_D10/PR1_MDIO_MDCLK, E4 VIN2A_D7/PR1_MII1_TXEN, E6 VIN2A_D9/PR1_MII1_TXD2, F5 VIN2A_D8/PR1_MII1_TXD3, F6 VIN2A_D11/PR1_MDIO_DATA
part M pins: A11 MCASP1_AXR9/PR2_MII0_TXD3, A12 MCASP1_AXR11/PR2_MII0_TXD1, A13 MCASP1_AXR13/PR2_MII_MR0_CLK, A16 MCASP2_AXR3/PR2_MII0_RXLINK, A18 MCASP2_FSX/PR2_MII0_RXD1, A19 MCASP2_ACLKX/PR2_MII0_RXD2, B12 MCASP1_AXR8/PR2_MII0_TXEN, B13 MCASP1_AXR10/PR2_MII0_TXD2, B18 MCASP3_ACLKX/PR2_MII0_CRS, C14 MCASP1_ACLKX/PR2_MDIO_MDCLK, C15 MCASP2_AXR2/PR2_MII0_RXD0, D14 MCASP1_FSX/PR2_MDIO_DATA, E14 MCASP1_AXR12/PR2_MII0_TXD0, F12 MCASP1_AXR1/PR2_MII_MT0_CLK, F14 MCASP1_AXR15/PR2_MII0_RXD3, F15 MCASP3_FSX/PR2_MII0_COL, G12 MCASP1_AXR0/PR2_MII0_RXER, G14 MCASP1_AXR14/PR2_MII0_RXDV
part N pins: AB4 GPIO6_11/PR2_MII1_TXEN, AB5 MMC3_DAT7/PR2_MII1_RXD0, AB8 MMC3_DAT6/PR2_MII1_RXD1, AC3 MMC3_DAT3/PR2_MII1_RXDV, AC4 MMC3_CMD/PR2_MII1_TXD2, AC5 GPIO6_10/PR2_MII_MT1_CLK, AC6 MMC3_DAT1/PR2_MII1_TXD0, AC7 MMC3_DAT0/PR2_MII1_TXD1, AC8 MMC3_DAT4/PR2_MII1_RXD3, AC9 MMC3_DAT2/PR2_MII_MR1_CLK, AD4 MMC3_CLK/PR2_MII1_TXD3, AD6 MMC3_DAT5/PR2_MII1_RXD2, B19 MCASP3_AXR0/PR2_MII1_RXER, C17 MCASP3_AXR1/PR2_MII1_RXLINK, D18 XREF_CLK0/PR2_MII1_COL, E17 XREF_CLK1/PR2_MII1_CRS
part O pins: AA5 MMC1_DAT2, AA6 MMC1_DAT0, W6 MMC1_CLK, W7 MMC1_SDCD, Y3 MMC1_DAT3, Y4 MMC1_DAT1, Y6 MMC1_CMD, Y9 MMC1_SDWP
part P pins: AG13 PCIE_RXN0, AG14 PCIE_TXN0, AG15 LJCB_CLKP, AH13 PCIE_RXP0, AH14 PCIE_TXP0, AH15 LJCB_CLKN
part Q pins: AB10 USB1_DRVVBUS, AC11 USB_TXN0, AC12 USB1_DM, AD11 USB_TXP0, AD12 USB1_DP, AE12 USB_RXP0, AF12 USB_RXN0
part R pins: C20 I2C1_SCL, C21 I2C1_SDA
part S pins: D20 TRSTn, D23 TDI, D24 EMU1, E18 RTCK, E20 TCK, F18 TMS, F19 TDO, G21 EMU0
part T pins: A5 VOUT1_D12, A7 VOUT1_D18, A8 VOUT1_D19, A9 VOUT1_D21, A10 VOUT1_D23, B7 VOUT1_D16, B8 VOUT1_D17, B9 VOUT1_D22, B10 VOUT1_DE, C6 VOUT1_D13, C7 VOUT1_D15, C8 VOUT1_D14, C9 VOUT1_D20, C11 VOUT1_HSYNC, D1 VIN2A_D2/eCAP1_IN_PWM1, D7 VOUT1_D10, D8 VOUT1_D11, D9 VOUT1_D9, D11 VOUT1_CLK, E7 VOUT1_D7, E8 VOUT1_D8, E9 VOUT1_D4, E11 VOUT1_VSYNC, F8 VOUT1_D6, F9 VOUT1_D5, F10 VOUT1_D2, F11 VOUT1_D0, G10 VOUT1_D1, G11 VOUT1_D3
part U pins: A21 MCASP4_FSX/SPI3_D1, AF4 VIN1A_D15/GPIO, C18 MCASP4_ACLKX/SPI3_SCLK, D17 MCASP4_AXR1/SPI3_CS0
part V pins: A15 MCASP2_AXR1, A17 MCASP2_AXR7, A20 MCASP2_FSR, A22 SPI1_CS1, A24 SPI1_CS0, A25 SPI1_SCLK, AA1 MLBP_DAT_P, AA2 MLBP_DAT_N, AA4 MCASP5_AXR1/GPIO, AB1 MLBP_CLK_P, AB2 MLBP_CLK_N, AB3 MCASP5_AXR0/GPIO, AC1 MLBP_SIG_P, AC2 MLBP_SIG_N, AD2 VIN1A_D22, AD3 VIN1A_D23, AD8 VIN1A_D1, AD9 VIN1A_DE0, AE1 VIN1A_D19, AE2 VIN1A_D20, AE3 VIN1A_D17, AE5 VIN1A_D18, AE6 VIN1A_D21, AE8 VIN1A_D0, AE9 VIN1A_HSYNC0, AF1 VIN1A_D16, AF3 VIN1A_D14, AF6 VIN1A_D13, AF8 VIN1A_VSYNC0, AF9 VIN1A_FLD0, AG2 VIN1A_D9, AG3 VIN1A_D10, AG4 VIN1A_D8, AG5 VIN1A_D11, AG6 VIN1A_D6, AG7 VIN1A_D2, AG8 VIN1A_CLK0, AG9 SATA1_RXP0, AG10 SATA1_TXN0, AG11 PCIE_RXN1, AG12 PCIE_TXN1, AH3 VIN1A_D4, AH4 VIN1A_D7, AH5 VIN1A_D5, AH6 VIN1A_D3, AH7 VIN1B_CLK1, AH9 SATA1_RXN0, AH10 SATA1_TXP0, AH11 PCIE_RXP1, AH12 PCIE_TXP1, B11 VOUT1_FLD, B14 MCASP1_ACLKR, B15 MCASP2_AXR0, B16 MCASP2_AXR5, B17 MCASP2_AXR6, B25 SPI1_D0, B26 XREF_CLK2, B27 UART1_RXD/GPIO, C12 MCASP1_AXR6, C26 UART1_TXD/GPIO, C27 UART1_RTSn/GPIO, D2 VIN2A_D4, D12 MCASP1_AXR7, D15 MCASP2_AXR4, E1 VIN2A_CLK0, E2 VIN2A_D3, E12 MCASP1_AXR4, E15 MCASP2_ACLKR, E21 GPIO6_14, E25 UART1_CTSn/GPIO, F13 MCASP1_AXR5, F16 SPI1_D1, F20 GPIO6_15, F21 GPIO6_16, G1 VIN2A_HSYNC0, G2 VIN2A_DE0, G6 VIN2A_VSYNC0, G13 MCASP1_AXR2, G16 MCASP4_AXR0/SPI3_D0, H1 GPMC_AD12, H2 GPMC_AD14, H3 GPMC_AD15, H7 VIN2A_FLD0, J1 GPMC_AD10, J2 GPMC_AD11, J3 GPMC_AD13, J11 MCASP1_AXR3, J14 MCASP1_FSR, K2 GPMC_AD9, L1 GPMC_AD8, L2 GPMC_AD7/GPIO, L3 GPMC_AD6/GPIO, L4 GPMC_AD5/GPIO, L5 GPMC_AD2/GPIO, L6 GPMC_AD4/GPIO, M1 GPMC_AD3/GPIO, M2 GPMC_AD1/GPIO, M3 GPMC_WEN, M4 GPMC_BEN1, M5 GPMC_OEN_REN, M6 GPMC_AD0/GPIO, N1 GPMC_ADVN_ALE, N2 GPMC_WAIT0, N6 GPMC_BEN0, P1 GPMC_CS3/GPIO, P7 GPMC_CLK, T1 GPMC_CS0
part W pins: G19 DCAN1_RX, G20 DCAN1_TX
part X pins: C23 XREF_CLK3/CLKOUT3, N7 GPMC_A8/VIN4B_HSYNC1, N9 GPMC_A10/VIN4B_CLK1, P4 GPMC_A12/VIN4B_FLD1, P5 GPMC_A7/VIN4B_D7, P6 GPMC_A4/VIN4B_D4, P9 GPMC_A11/VIN4B_DE1, R4 GPMC_A9/VIN4B_VSYNC1, R5 GPMC_A6/VIN4B_D6, R6 GPMC_A0/VIN4B_D0, R9 GPMC_A5/VIN4B_D5, T6 GPMC_A2/VIN4B_D2, T7 GPMC_A3/VIN4B_D3, T9 GPMC_A1/VIN4B_D1
part Y pins: A1 VSS (power), A2 VSS (power), A6 VSS (power), A14 VSS (power), A23 VSS (power), A27 RSVA27, A28 VSS (power), AA7 VDDS_MLBP (power), AA8 VSS (power), AA9 VSS (power), AA10 VSS (power), AA11 VSSA_USB (power), AA12 VDDA33V_USB1 (power), AA13 VDDA_USB1 (power), AA14 VSS (power), AA15 VSS (power), AA16 VDDA_PCIE1 (power), AA17 VDDA_PCIE0 (power), AA18 VDDS18V_DDR1 (power), AA19 VDDS18V_DDR1 (power), AA20 VSS (power), AA21 VDDS_DDR1 (power), AA22 VDDS_DDR1 (power), AB6 VDDSHV7 (power), AB7 VDDSHV7 (power), AB11 VSSA_USB (power), AB12 VDDA_USB2 (power), AB13 VDDA_RTC (power), AB14 VSS (power), AB15 VDD_RTC (power), AB20 VSS (power), AB21 VDDS_DDR1 (power), AB22 VDDS_DDR1 (power), AB24 VDDS_DDR1 (power), AB25 VDDS_DDR1 (power), AC22 VDDS_DDR1 (power), AD1 VSS (power), AD5 VDDSHV6 (power), AD7 VDDSHV6 (power), AD10 VSSA_USB3 (power), AD13 VSSA_PCIE (power), AD16 VDDA_OSC (power), AD19 VSSA_HDMI (power), AD24 VSS (power), AD26 VDDS_DDR1 (power), AE7 VDDSHV6 (power), AE10 VSSA_SATA (power), AE13 VSSA_PCIE (power), AE16 VDDA_OSC (power), AE19 VSSA_HDMI (power), AF5 VDDSHV6 (power), AG1 VSS (power), AG20 VDDS_DDR1 (power), AG28 VDDS_DDR1 (power), AH1 VSS (power), AH2 VSS (power), AH8 VSS (power), AH20 VSS (power), AH27 VDDS_DDR1 (power), AH28 VSS (power), B1 VSS (power), B6 VDDSHV2 (power), B23 VDDSHV3 (power), B28 RSVB28, C24 VDDSHV4 (power), D10 VDDSHV2 (power), D13 VSS (power), D16 VDDSHV3 (power), D19 VSS (power), D22 VDDSHV3 (power), E3 VDDSHV1 (power), E5 VDDSHV1 (power), E10 VDDSHV2 (power), E13 VSS (power), E16 VDDSHV3 (power), E19 VSS (power), E22 VDDSHV3 (power), E24 VDDS_DDR2 (power), F1 VSS (power), F7 VSS (power), G4 VDDSHV1 (power), G5 VDDSHV1 (power), G7 VSS (power), G8 VSS (power), G9 VSS (power), G15 VDDSHV3 (power), G18 VDDS18V (power), G22 VDDS_DDR2 (power), G23 VDDS_DDR2 (power), H8 VDDSHV1 (power), H9 VDDSHV1 (power), H10 VDDSHV2 (power), H11 VDDSHV2 (power), H12 VSS (power), H13 VDD (power), H14 VDD (power), H15 VDDSHV3 (power), H16 VDDSHV3 (power), H17 VDDS18V (power), H18 VDDSHV3 (power), H19 VDDSHV3 (power), H20 VDDS_DDR2 (power), H21 VDDS_DDR2 (power), H22 VDDS_DDR2 (power), J8 VDDSHV11 (power), J9 CAP_VDDRAM_DSPEVE2, J10 CAP_VDDRAM_DSPEVE1, J12 VSS (power), J13 VDD_DSPEVE (power), J15 VSS (power), J16 CAP_VBBLDO_MPU, J17 VDD (power), J18 VDD (power), J19 CAP_VDDRAM_CORE2, J21 VDDS18V_DDR2 (power), J22 VDDS18V_DDR2 (power), J27 VDDS_DDR2 (power), J28 VSS (power), K1 VSS (power), K4 VSS (power), K5 VSS (power), K8 VDDSHV11 (power), K9 CAP_VBBLDO_DSPEVE, K10 VDD_DSPEVE (power), K11 VDD_DSPEVE (power), K12 VDD_DSPEVE (power), K13 VDD_DSPEVE (power), K14 RSVK14, K15 VSS (power), K16 CAP_VDDRAM_MPU1, K17 VDD_MPU (power), K18 VDD_MPU (power), K19 CAP_VDDRAM_MPU2, K24 VSS (power), K25 VSS (power), L7 VDD (power), L8 VDD (power), L9 CAP_VDDRAM_CORE1, L10 VDD_DSPEVE (power), L11 VDD_DSPEVE (power), L12 VDD_DSPEVE (power), L13 VSS (power), L14 VSS (power), L15 VDD_MPU (power), L16 VDD_MPU (power), L17 VDD_MPU (power), L18 VDD_MPU (power), L19 VDD_MPU (power), L20 VDDS_DDR2 (power), L21 VDDS_DDR2 (power), M8 VDDS18V (power), M9 VDDS18V (power), M10 VDD_DSPEVE (power), M11 VDD_DSPEVE (power), M12 VDD_DSPEVE (power), M13 VDD_DSPEVE (power), M14 VDDA_ABE_PER (power), M15 VDD_MPU (power), M16 VDD_MPU (power), M17 VDD_MPU (power), M18 VDD_MPU (power), M19 VSS (power), M20 VDDS_DDR2 (power), M21 VDDS_DDR2 (power), N4 VDDSHV10 (power), N5 VDDSHV10 (power), N8 VDDS18V (power), N10 VDD (power), N11 VDDA_DEBUG (power), N12 VDDA_DSP_EVE (power), N13 VDD (power), N14 VSS (power), N15 VSS (power), N16 VDDA_MPU (power), N17 VDD_MPU (power), N18 VDD_MPU (power), N19 VSS (power), N21 VDDS18V_DDR2 (power), N24 VSS (power), N25 VSS (power), P8 VDDS18V (power), P10 VDDSHV10 (power), P11 VDD (power), P12 VDD (power), P13 VDD (power), P14 VDDA_VIDEO (power), P15 VDDA_GMAC_CORE (power), P16 VDDA_DDR (power), P17 VDD_MPU (power), P18 VDD_MPU (power), P19 CAP_VDDRAM_CORE4, P20 VDDS18V_DDR2 (power), P21 VDDS18V_DDR2 (power), P28 VSS (power), R1 VSS (power), R7 VDDSHV10 (power), R8 VDDS18V (power), R10 VDDSHV10 (power), R11 VDD (power), R12 VSS (power), R13 VSS (power), R14 VDDA_GPU (power), R15 VSS (power), R16 VDD (power), R17 VDDA_IVA (power), R18 VDD_MPU (power), R19 VDD (power), R20 CAP_VBBLDO_IVA, R21 VSS (power), T4 VDDSHV10 (power), T5 VDDSHV10 (power), T8 VDDS18V (power), T10 VSS (power), T11 VSS (power), T12 VSS (power), T13 VDD (power), T14 VSS (power), T15 VSS (power), T16 VDD (power), T17 VSS (power), T18 VSS (power), T19 VDD (power), T20 CAP_VDDRAM_IVA, T21 VSS (power), T24 VDDS_DDR2 (power), T25 VDDS_DDR2 (power), U8 VDD (power), U9 VDD (power), U10 VDDSHV9 (power), U11 VDD_GPU (power), U12 VDD_GPU (power), U13 VDD (power), U14 VSSA_VIDEO (power), U15 VSS (power), U16 VDD (power), U17 VSS (power), U18 VDD_IVA (power), U19 VDD_IVA (power), U20 VSS (power), U21 VSS (power), V8 VDD (power), V10 VDD_GPU (power), V11 VDD_GPU (power), V12 VDDSHV5 (power), V13 VDDA_SATA (power), V14 VDD_GPU (power), V15 VSS (power), V16 VDD (power), V17 VSS (power), V18 VDD_IVA (power), V19 VDD_IVA (power), V21 VDDS18V (power), V22 VDDS18V (power), W1 VSS (power), W4 VDDSHV9 (power), W5 VDDSHV9 (power), W8 VDDSHV8 (power), W10 VDD_GPU (power), W11 VDD_GPU (power), W12 VDDA_USB3 (power), W13 VDD_GPU (power), W14 VDDA_PCIE (power), W15 VSS (power), W16 VDDS_DDR1 (power), W17 VDDS18V (power), W18 VDDS18V (power), W21 VDDS18V_DDR1 (power), W24 VSS (power), W25 VSS (power), W27 VDDS_DDR1 (power), W28 VSS (power), Y5 RSVY5, Y7 VDDS_MLBP (power), Y8 VDDSHV8 (power), Y10 RSVY10, Y12 VDDA33V_USB2 (power), Y13 CAP_VDDRAM_GPU, Y14 CAP_VBBLDO_GPU, Y15 CAP_VDDRAM_CORE3, Y16 CAP_VDDRAM_CORE5, Y17 VDDA_HDMI (power), Y21 VDDS18V_DDR1 (power)
part Z pins: E26 DDR2_D0, E27 DDR2_D6, E28 DDR2_D7, F24 DDR2_D3, F25 DDR2_D2, F26 DDR2_D4, F27 DDR2_D5, F28 DDR2_DQM0, G24 DDR2_DQM1, G25 DDR2_D1, G26 DDR2_D12, G27 DDR2_DQS0n, G28 DDR2_DQS0, H23 DDR2_D8, H24 DDR2_D10, H25 DDR2_D9, H26 DDR2_D11, H27 DDR2_DQS1, H28 DDR2_DQS1n, J20 DDR2_D23, J23 DDR2_D21, J24 DDR2_D15, J25 DDR2_D13, J26 DDR2_D14, K20 DDR2_D17, K21 DDR2_D18, K22 DDR2_D22, K23 DDR2_DQM2, K27 DDR2_DQS2, K28 DDR2_DQS2n, L22 DDR2_D16, L23 DDR2_D19, L24 DDR2_D20, L25 DDR2_D26, L26 DDR2_D25, L27 DDR2_D24, L28 DDR2_D27, M22 DDR2_DQM3, M23 DDR2_D28, M24 DDR2_D29, M25 DDR2_D30, M26 DDR2_D31, M27 DDR2_DQS3n, M28 DDR2_DQS3, N20 DDR2_A7, N22 DDR2_VREF, N23 DDR2_A10, N27 DDR2_A9, N28 DDR2_A12, P22 DDR2_A5, P23 DDR2_A4, P24 DDR2_CSN0, P25 DDR2_A6, P26 DDR2_A11, P27 DDR2_A8, R22 DDR2_A14, R23 DDR2_ODT0, R24 DDR2_RST, R25 DDR2_A0, R26 DDR2_A1, R27 DDR2_A3, R28 DDR2_A2, T22 DDR2_A13, T23 DDR2_RASn, T27 DDR2_CKn, T28 DDR2_CK, U22 DDR2_A15, U23 DDR2_BA0, U24 DDR2_CKE, U25 DDR2_WEn, U26 DDR2_BA2, U27 DDR2_BA1, U28 DDR2_CASn
part 27 pins: AA3 MCASP5_ACLKX/PR2_PRU1_R30_1, AB9 MCASP5_FSX/PR2_PRU1_R31_2, D26 UART2_TXD, D28 UART2_RXD
part 28 pins: A26 SPI2_SCLK, B22 SPI2_D1, B24 SPI2_CS0, G17 SPI2_D0
part 29 pins: AC10 USB2_DRVVBUS, AE11 USB2_DP, AF2 VIN1A_D12/GPIO, AF11 USB2_DM
part A text: AM57x / Main / Osc/Ctrl /
part B text: AM572X RTC / Osc /
part C text: AM57x DDR /
part D text: AM572X / QSPI /
part E text: AM57x / eMMC /
part F text: AM572X / RGMII0 /
part G text: AM572X / RGMII1 /
part H text: AM572X / HDMI /
part I text: AM572X / UART3 /
part J text: AM572X / PR1_UART0 / ProfiBus /
part K text: AM572X / PRU1_MII0 /
part L text: AM572X / PRU1_MII1 /
part M text: AM572X / PRU2_MII0 /
part N text: AM57x / PRU2_MII1 /
part O text: AM572X / SD/MMC1 /
part P text: AM572X / PCIE /
part Q text: AM572X / USB1 /
part R text: AM572X / I2C1 /
part S text: AM572X / JTAG /
part T text: AM57XX / LCD /
part U text: AM572X / SPI3 /
part V text: AM572X GPIO & Unused / Pins /
part W text: AM572X / DCAN / #1 /
part X text: AM572X / Camera #1 /
part Y text: AM572X Power /
part Z text: AM57x DDR / #2 /
part 27 text: AM572X / RS-485 /
part 28 text: AM572X / SPI2 /
part 29 text: AM572X / USB2 /

## AMS1117_0
designator U?
footprint SOT223
pins: 1 GND, 2 VOUT, 3 VIN

## ANT3P
designator J?
pins: 1 IN, 2 NC, 3 GND3

## AP6255
designator U?
pins: 1 GND1, 2 ANT, 3 GND2, 4 NC1, 5 NC2, 6 BT_WAKE, 7 BT_HOST_WAKE, 8 NC3, 9 VBAT, 10 XTAL_IN, 11 XTAL_OUT, 12 WL_REG_ON, 13 WL_HOST_WAKE, 14 SDIO_DATA_2, 15 SDIO_DATA_3, 16 SDIO_DATA_CMD, 17 SDIO_DATA_CLK, 18 SDIO_DATA_0, 19 SDIO_DATA_1, 20 GND3, 21 VIN_LDO_OUT, 22 VDD_IO, 23 VIN_LDO, 24 LPO, 25 PCM_OUT, 26 PCM_CLK, 27 PCM_IN, 28 PCM_SYNC, 29 NC6, 30 TCXO_IN, 31 GND4, 32 NC7, 33 GND5, 34 BT_REG_ON, 35 NC8, 36 GND6, 37 BT_XTAL_IN, 38 BT_XTAL_OUT, 39 NC9, 40 NC10, 41 UART_RST_N, 42 UART_TXD, 43 UART_RXD, 44 UART_CTS_N, 45 NC11, 46 NC12, 47 NC13

## AR8035
designator U?
pins: 1 RESTN, 2 LX, 3 VDD33 (power), 4 XTLO, 5 XTLI, 6 AVDDL1 (power), 7 RBIAS, 8 VDDH_REG, 9 TRXP0, 10 TRXN0, 11 AVDDL2 (power), 12 TRXP1, 13 TRXN1, 14 AVDD33, 15 TRXP2, 16 TRXN2, 17 AVDDL3 (power), 18 TRXP3, 19 TRXN3, 20 INT, 21 LED_ACT, 22 LED_1000, 23 CLK_25M, 24 LED_10_100, 25 RXD3, 26 RXD2, 27 VDDIO_REG, 28 RXD1, 29 RXD0, 30 RX_DV, 31 RX_CLK, 32 TX_EN, 33 GTX_CLK, 34 TXD0, 35 TXD1, 36 TXD2, 37 TXD3, 38 DVDDL, 39 MDIO, 40 MDC, 41 GND_PAD (power)

## AUDIO CONN_0
designator CN?
pins: 1, 2, 3, 4, 5
1 alternate drawing of the same symbol

## C
designator C?
pins: 1, 2

## CHOKE_CM_DLP11SN900HL2L
designator L?, comment DLP11SN900HL2L
CM CHOKE, 90R @ 100MHZ, SMT; Manufacturer: Murata; Manuf. Part No: DLP11SN900HL2L
footprint MURATA_DLP11SNXXXHL2
pins: 1 P1, 2 P2, 3 P3, 4 P4

## CON_MINI_HDMI_RA_EDAC
designator J?, comment 690-019-298-903
Mini HDMI Con, RA, SMT with PTH lugs; Manufacturer: EDAC; Manuf. Part No: 690-019-298-903
footprint WURTH_685119136923
pins: 1 D2_SH, 2 D2+, 3 D2-, 4 D1_SH, 5 D1+, 6 D1-, 7 D0_SH, 8 D0+, 9 D0-, 10 CLK_SH, 11 CLK+, 12 CLK-, 13 CEC_GND, 14 CEC, 15 SCL, 16 SDA, 17 Reserved, 18 +5V, 19 HPD, 20 SH1, 21 SH2, 22 SH3, 23 SH4
text: Mini HDMI

## Conn_HDMI_TypeA_0
designator J?, comment HDMIConnA
Connector HDMI Type A RA; TIIntPartnumber: 2C0085; MfrNum: 10029449-001RLF; Mfr: FCI; PartName: Conn_HDMI_A; PCB Footprint: SMD_Ratbd; Cost10K: 0.37; Cost100: 0.91; Vendor: Digikey; Descriptive_Text: Connector HDMI Type A RA; DescriptiveText: Connector HDMI Type A RA
footprint smd_hdmia_ra
pins: 1 DAT2+, 2 DAT2_S, 3 DAT2-, 4 DAT1+, 5 DAT1_S, 6 DAT1-, 7 DAT0+, 8 DAT0_S, 9 DAT0-, 10 CLK+, 11 CLK_S, 12 CLK-, 13 CEC, 14 NC, 15 SCL, 16 SDA, 17 DDC/CEC GND, 18 +5V (power), 19 HPLG, 20 MTG1, 21 MTG2, 22 MTG3, 23 MTG4

## Conn_HDMI_TypeA_1
designator J?, comment HDMIConnA
Connector HDMI Type A RA; TIIntPartnumber: 2C0085; MfrNum: 10029449-001RLF; Mfr: FCI; PartName: Conn_HDMI_A; PCB Footprint: SMD_Ratbd; Cost10K: 0.37; Cost100: 0.91; Vendor: Digikey; Descriptive_Text: Connector HDMI Type A RA; DescriptiveText: Connector HDMI Type A RA
footprint smd_hdmia_ra
pins: 1 DAT2+, 2 DAT2_S, 3 DAT2-, 4 DAT1+, 5 DAT1_S, 6 DAT1-, 7 DAT0+, 8 DAT0_S, 9 DAT0-, 10 CLK+, 11 CLK_S, 12 CLK-, 13 CEC, 14 NC, 15 SCL, 16 SDA, 17 DDC/CEC GND, 18 +5V (power), 19 HPLG, 20 MTG1, 21 MTG2, 22 MTG3, 23 MTG4

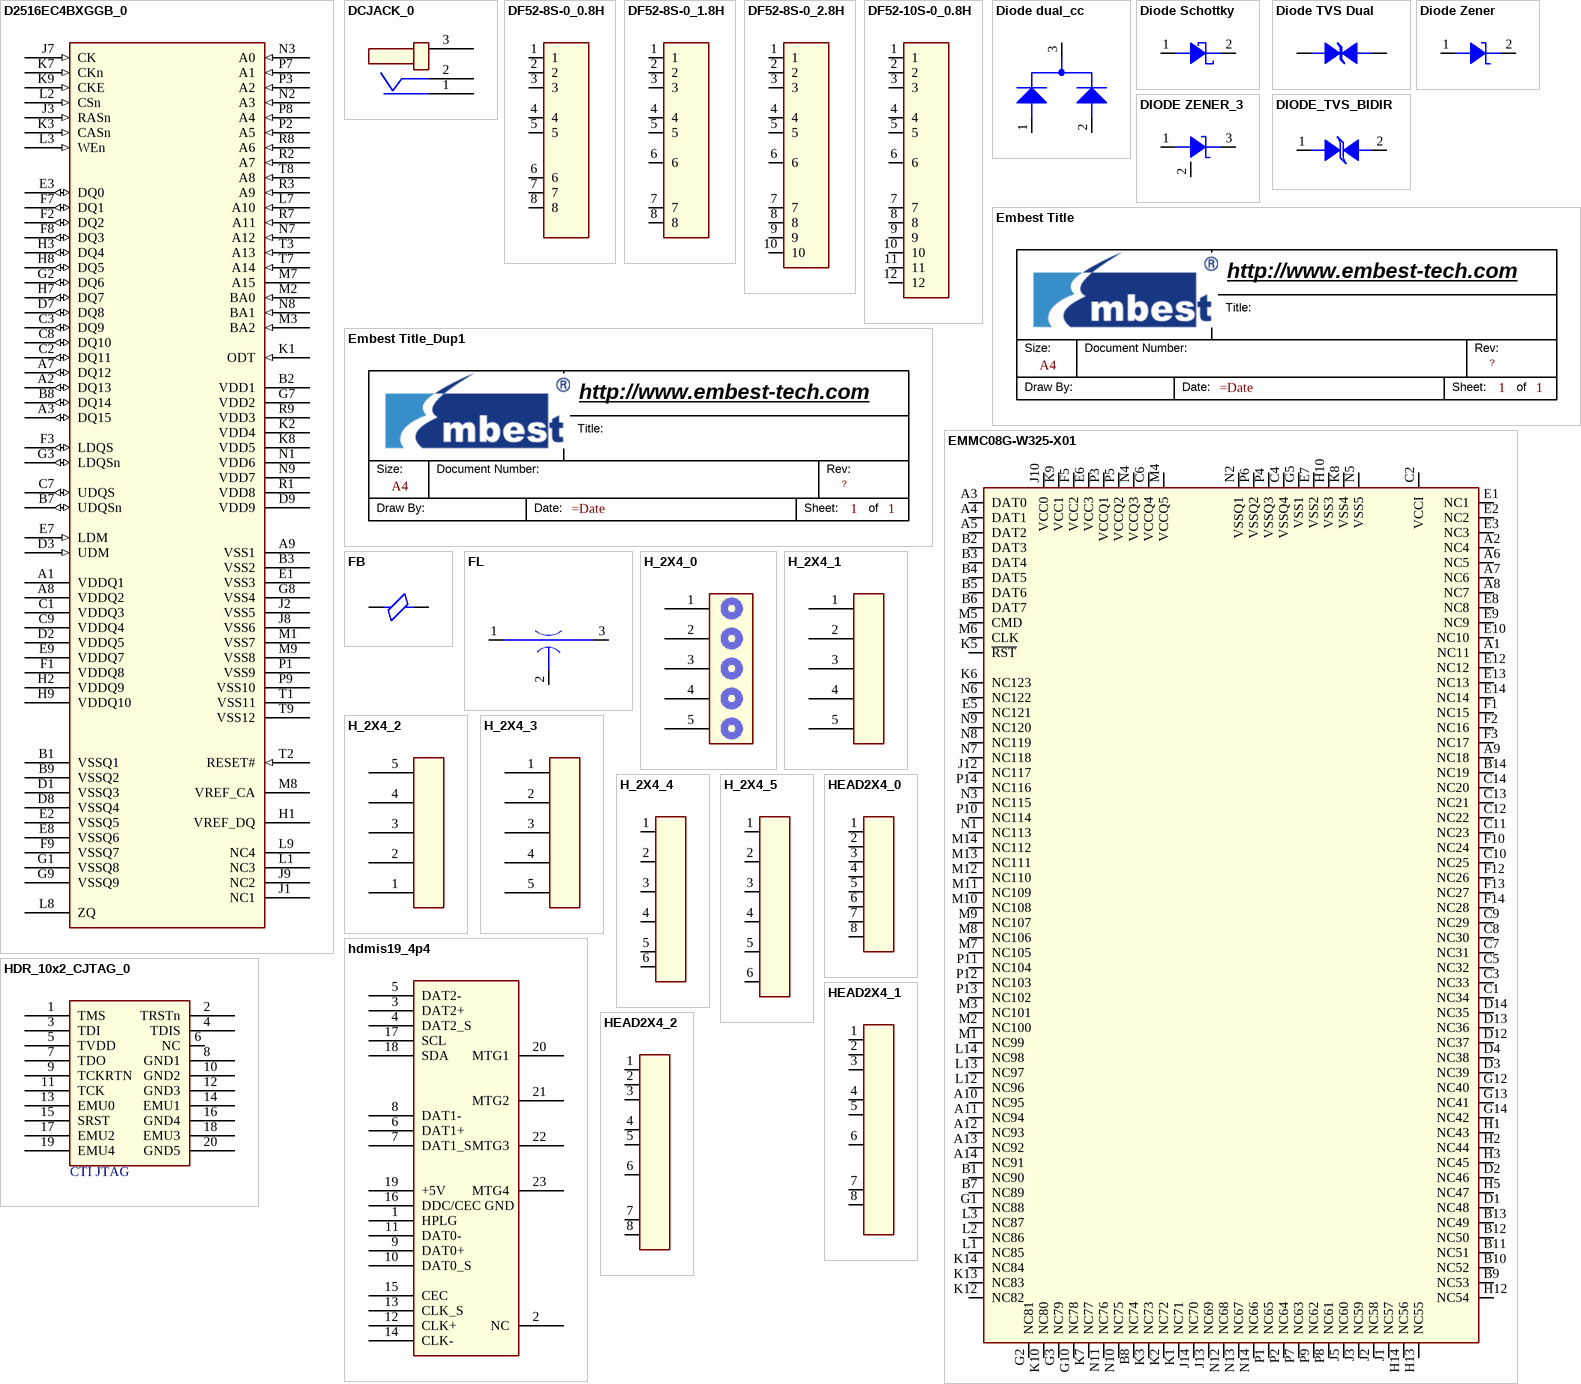
[diagram p152: symbols D2516EC4BXGGB_0 to HEAD2X4_2]

## D2516EC4BXGGB_0
designator U?
footprint ddr2_fbga60pin
pins: A1 VDDQ1 (power), A2 DQ13 (io), A3 DQ15 (io), A7 DQ12 (io), A8 VDDQ2 (power), A9 VSS1 (power), B1 VSSQ1 (power), B2 VDD1 (power), B3 VSS2 (power), B7 UDQSn (io), B8 DQ14 (io), B9 VSSQ2 (power), C1 VDDQ3 (power), C2 DQ11 (io), C3 DQ9 (io), C7 UDQS (io), C8 DQ10 (io), C9 VDDQ4 (power), D1 VSSQ3 (power), D2 VDDQ5 (power), D3 UDM (in), D7 DQ8 (io), D8 VSSQ4 (power), D9 VDD9 (power), E1 VSS3 (power), E2 VSSQ5 (power), E3 DQ0 (io), E7 LDM (in), E8 VSSQ6 (power), E9 VDDQ7 (power), F1 VDDQ8 (power), F2 DQ2 (io), F3 LDQS (io), F7 DQ1 (io), F8 DQ3 (io), F9 VSSQ7 (power), G1 VSSQ8 (power), G2 DQ6 (io), G3 LDQSn (io), G7 VDD2 (power), G8 VSS4 (power), G9 VSSQ9 (power), H1 VREF_DQ (power), H2 VDDQ9 (power), H3 DQ4 (io), H7 DQ7 (io), H8 DQ5 (io), H9 VDDQ10 (power), J1 NC1, J2 VSS5 (power), J3 RASn (in), J7 CK (in), J8 VSS6 (power), J9 NC2, K1 ODT (in), K2 VDD4 (power), K3 CASn (in), K7 CKn (in), K8 VDD5 (power), K9 CKE (in), L1 NC3, L2 CSn (in), L3 WEn (in), L7 A10 (in), L8 ZQ (power), L9 NC4, M1 VSS7 (power), M2 BA0 (in), M3 BA2 (in), M7 A15, M8 VREF_CA (power), M9 VSS8 (power), N1 VDD6 (power), N2 A3 (in), N3 A0 (in), N7 A12 (in), N8 BA1 (in), N9 VDD7 (power), P1 VSS9 (power), P2 A5 (in), P3 A2 (in), P7 A1 (in), P8 A4 (in), P9 VSS10 (power), R1 VDD8 (power), R2 A7 (in), R3 A9 (in), R7 A11 (in), R8 A6 (in), R9 VDD3 (power), T1 VSS11 (power), T2 RESET# (in), T3 A13 (in), T7 A14 (in), T8 A8 (in), T9 VSS12 (power)

## DCJACK_0
designator U?
pins: 1, 2, 3

## DF52-8S-0_0.8H
designator J?
pins: 1, 2, 3, 4, 5, 6, 7, 8

## DF52-8S-0_1.8H
designator J?
pins: 1, 2, 3, 4, 5, 6, 7, 8

## DF52-8S-0_2.8H
designator J?
pins: 1, 2, 3, 4, 5, 6, 7, 8, 9, 10

## DF52-10S-0_0.8H
designator J?
pins: 1, 2, 3, 4, 5, 6, 7, 8, 9, 10, 11, 12

## Diode dual_cc
designator Q?
pins: 1, 2, 3

## Diode Schottky
designator D?
pins: 1 A, 2 C

## Diode TVS Dual
designator D?
pins: 1, 2

## Diode Zener
designator D?
pins: 1 A, 2 C

## DIODE ZENER_3
designator D?
pins: 1 A, 2 NC, 3 K

## DIODE_TVS_BIDIR
designator TVS?
CLASS: IC
pins: 1 A1, 2 A2

## Embest Title
designator *  Page Count: 1  Page Size: A4  (hidden comment: *)  (graphical)
Company: Embest; Page Number: 1; RevCode: ?; Page Create Date: May 29, 2006; WebSite: http://www.embest-tech.com; Page Modify Date: =Date
text: Title:; Size:; Document Number:; Rev:; Draw By:; Date:; Sheet:; of

## Embest Title_Dup1
designator *  Page Count: 1  Page Size: A4  (hidden comment: *)  (graphical)
Company: Embest; Page Number: 1; RevCode: ?; Page Create Date: May 29, 2006; WebSite: http://www.embest-tech.com; Page Modify Date: =Date
text: Title:; Size:; Document Number:; Rev:; Draw By:; Date:; Sheet:; of

## EMMC08G-W325-X01
designator U?
pins: A1 NC11, A2 NC4, A3 DAT0, A4 DAT1, A5 DAT2, A6 NC5, A7 NC6, A8 NC7, A9 NC18, A10 NC95, A11 NC94, A12 NC93, A13 NC92, A14 NC91, B1 NC90, B2 DAT3, B3 DAT4, B4 DAT5, B5 DAT6, B6 DAT7, B7 NC89, B8 NC74, B9 NC53, B10 NC52, B11 NC51, B12 NC50, B13 NC49, B14 NC19, C1 NC34, C2 VCCI (power), C3 NC33, C4 VSSQ4, C5 NC32, C6 VCCQ4, C7 NC31, C8 NC30, C9 NC29, C10 NC25, C11 NC23, C12 NC22, C13 NC21, C14 NC20, D1 NC48, D2 NC46, D3 NC39, D4 NC38, D12 NC37, D13 NC36, D14 NC35, E1 NC1, E2 NC2, E3 NC3, E5 NC121, E6 VCC3 (power), E7 VSS2 (power), E8 NC8, E9 NC9, E10 NC10, E12 NC12, E13 NC13, E14 NC14, F1 NC15, F2 NC16, F3 NC17, F5 VCC2 (power), F10 NC24, F12 NC26, F13 NC27, F14 NC28, G1 NC88, G2 NC81, G3 NC79, G5 VSS1 (power), G10 NC78, G12 NC40, G13 NC41, G14 NC42, H1 NC43, H2 NC44, H3 NC45, H5 NC47, H10 VSS3 (power), H12 NC54, H13 NC55, H14 NC56, J1 NC57, J2 NC58, J3 NC59, J5 NC60, J10 VCC0, J12 NC117, J13 NC69, J14 NC70, K1 NC71, K2 NC72, K3 NC73, K5 ~{RST}, K6 NC123, K7 NC77, K8 VSS4 (power), K9 VCC1 (power), K10 NC80, K12 NC82, K13 NC83, K14 NC84, L1 NC85, L2 NC86, L3 NC87, L12 NC96, L13 NC97, L14 NC98, M1 NC99, M2 NC100, M3 NC101, M4 VCCQ5 (power), M5 CMD, M6 CLK, M7 NC105, M8 NC106, M9 NC107, M10 NC108, M11 NC109, M12 NC110, M13 NC111, M14 NC112, N1 NC113, N2 VSSQ1 (power), N3 NC115, N4 VCCQ3 (power), N5 VSS5 (power), N6 NC122, N7 NC118, N8 NC119, N9 NC120, N10 NC75, N11 NC76, N12 NC68, N13 NC67, N14 NC66, P1 NC65, P2 NC64, P3 VCCQ1 (power), P4 VSSQ3 (power), P5 VCCQ2 (power), P6 VSSQ2 (power), P7 NC63, P8 NC61, P9 NC62, P10 NC114, P11 NC104, P12 NC103, P13 NC102, P14 NC116

## FB
designator FB?
pins: 1, 2

## FL
designator FL?
pins: 1, 2, 3

## H_2X4_0
designator CN?
pins: 1, 2, 3, 4, 5

## H_2X4_1
designator CN?
pins: 1, 2, 3, 4, 5

## H_2X4_2
designator CN?
pins: 1, 2, 3, 4, 5

## H_2X4_3
designator CN?
pins: 1, 2, 3, 4, 5

## H_2X4_4
designator CN?
pins: 1, 2, 3, 4, 5, 6

## H_2X4_5
designator CN?
pins: 1, 2, 3, 4, 5, 6

## hdmis19_4p4
designator J?
pins: 1 HPLG, 2 NC, 3 DAT2+, 4 DAT2_S, 5 DAT2-, 6 DAT1+, 7 DAT1_S, 8 DAT1-, 9 DAT0+, 10 DAT0_S, 11 DAT0-, 12 CLK+, 13 CLK_S, 14 CLK-, 15 CEC, 16 DDC/CEC GND, 17 SCL, 18 SDA, 19 +5V, 20 MTG1 (power), 21 MTG2 (power), 22 MTG3 (power), 23 MTG4 (power)

## HDR_10x2_CJTAG_0
designator J?, comment CTI JTAG
Dual Line Header 10x2pin Tin; TIIntPartnumber: 2H0039; MfrNum: FTR-110-03-G-D-06; PartName: HEADERCTIJTAG10x2Pin; PCB Footprint: SMD10x2Pin0.050in; Cost10K: 0.97; Cost100: 1.20; Vendor: Samtec; Mfr: Samtec
footprint header10x2
pins: 1 TMS, 2 TRSTn, 3 TDI, 4 TDIS, 5 TVDD, 6 NC, 7 TDO, 8 GND1 (power), 9 TCKRTN, 10 GND2 (power), 11 TCK, 12 GND3 (power), 13 EMU0, 14 EMU1, 15 SRST, 16 GND4 (power), 17 EMU2, 18 EMU3, 19 EMU4, 20 GND5 (power)

## HEAD2X4_0
designator J?
pins: 1, 2, 3, 4, 5, 6, 7, 8

## HEAD2X4_1
designator J?
pins: 1, 2, 3, 4, 5, 6, 7, 8

## HEAD2X4_2
designator J?
pins: 1, 2, 3, 4, 5, 6, 7, 8

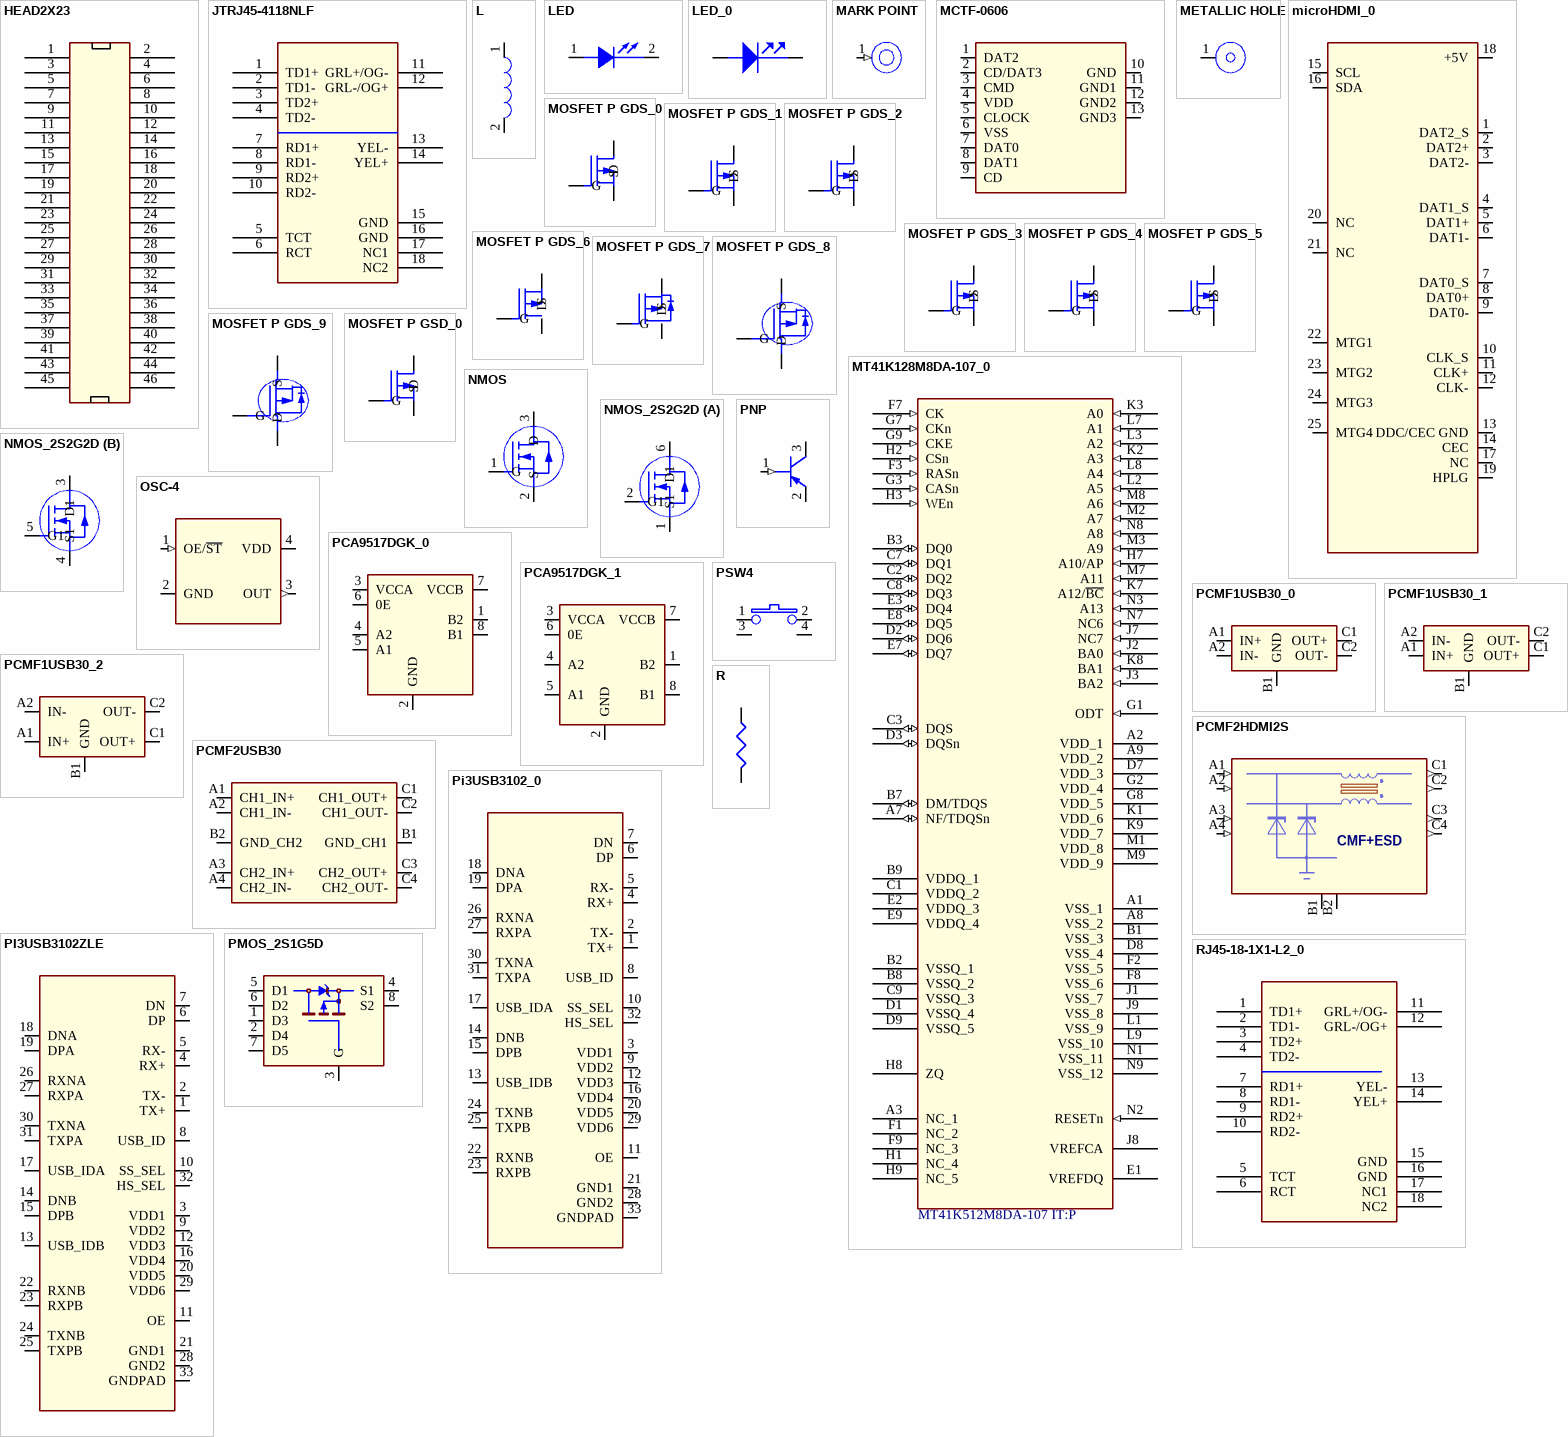
[diagram p153: symbols HEAD2X23 to RJ45-18-1X1-L2_0]

## HEAD2X23
designator J?
pins: 1, 2, 3, 4, 5, 6, 7, 8, 9, 10, 11, 12, 13, 14, 15, 16, 17, 18, 19, 20, 21, 22, 23, 24, 25, 26, 27, 28, 29, 30, 31, 32, 33, 34, 35, 36, 37, 38, 39, 40, 41, 42, 43, 44, 45, 46

## JTRJ45-4118NLF
designator J?
pins: 1 TD1+, 2 TD1-, 3 TD2+, 4 TD2- (power), 5 TCT, 6 RCT, 7 RD1+, 8 RD1-, 9 RD2+, 10 RD2-, 11 GRL+/OG-, 12 GRL-/OG+, 13 YEL-, 14 YEL+, 15 GND (power), 16 GND (power), 17 NC1, 18 NC2

## L
designator L?
pins: 1, 2

## LED
designator LED?
pins: 1 A, 2 C

## LED_0
designator D?
pins: 1 A, 2 C

## MARK POINT
designator ID?
pins: 1 (in)

## MCTF-0606
designator J?
pins: 1 DAT2, 2 CD/DAT3, 3 CMD, 4 VDD, 5 CLOCK, 6 VSS, 7 DAT0, 8 DAT1, 9 CD, 10 GND, 11 GND1, 12 GND2, 13 GND3

## METALLIC HOLE
designator MH?
pins: 1

## microHDMI_0
designator P?
pins: 1 DAT2_S, 2 DAT2+, 3 DAT2-, 4 DAT1_S, 5 DAT1+, 6 DAT1-, 7 DAT0_S, 8 DAT0+, 9 DAT0-, 10 CLK_S, 11 CLK+, 12 CLK-, 13 DDC/CEC GND, 14 CEC, 15 SCL, 16 SDA, 17 NC, 18 +5V (power), 19 HPLG, 20 NC, 21 NC, 22 MTG1, 23 MTG2, 24 MTG3 (power), 25 MTG4

## MOSFET P GDS_0
designator Q?
pins: 1 G, 2 D, 3 S

## MOSFET P GDS_1
designator Q?
pins: 1 G, 2 D, 3 S

## MOSFET P GDS_2
designator Q?
pins: 1 G, 2 D, 3 S

## MOSFET P GDS_3
designator Q?
pins: 1 G, 2 S, 3 D

## MOSFET P GDS_4
designator Q?
pins: D, G, S

## MOSFET P GDS_5
designator Q?
pins: D, G, S

## MOSFET P GDS_6
designator Q?
pins: D, G, S

## MOSFET P GDS_7
designator Q?
pins: D, G, S

## MOSFET P GDS_8
designator Q?
pins: D, G, S

## MOSFET P GDS_9
designator Q?
pins: D, G, S

## MOSFET P GSD_0
designator Q?
pins: 1 G, 2 S, 3 D

## MT41K128M8DA-107_0
designator U?, comment MT41K512M8DA-107 IT:P
pins: A1 VSS_1 (power), A2 VDD_1 (power), A3 NC_1, A7 NF/TDQSn (io), A8 VSS_2 (power), A9 VDD_2 (power), B1 VSS_3 (power), B2 VSSQ_1 (power), B3 DQ0 (io), B7 DM/TDQS (io), B8 VSSQ_2 (power), B9 VDDQ_1 (power), C1 VDDQ_2 (power), C2 DQ2 (io), C3 DQS (io), C7 DQ1 (io), C8 DQ3 (io), C9 VSSQ_3 (power), D1 VSSQ_4 (power), D2 DQ6 (io), D3 DQSn (io), D7 VDD_3 (power), D8 VSS_4 (power), D9 VSSQ_5 (power), E1 VREFDQ (power), E2 VDDQ_3 (power), E3 DQ4 (io), E7 DQ7 (io), E8 DQ5 (io), E9 VDDQ_4 (power), F1 NC_2, F2 VSS_5 (power), F3 RASn (in), F7 CK (in), F8 VSS_6 (power), F9 NC_3, G1 ODT (in), G2 VDD_4 (power), G3 CASn (in), G7 CKn (in), G8 VDD_5 (power), G9 CKE (in), H1 NC_4, H2 CSn (in), H3 WEn (in), H7 A10/AP (in), H8 ZQ, H9 NC_5, J1 VSS_7 (power), J2 BA0 (in), J3 BA2 (in), J7 NC7 (in), J8 VREFCA, J9 VSS_8 (power), K1 VDD_6 (power), K2 A3 (in), K3 A0 (in), K7 A12/~{BC} (in), K8 BA1 (in), K9 VDD_7 (power), L1 VSS_9 (power), L2 A5 (in), L3 A2 (in), L7 A1 (in), L8 A4 (in), L9 VSS_10 (power), M1 VDD_8 (power), M2 A7 (in), M3 A9 (in), M7 A11 (in), M8 A6 (in), M9 VDD_9 (power), N1 VSS_11 (power), N2 RESETn (in), N3 A13 (in), N7 NC6 (in), N8 A8 (in), N9 VSS_12 (power)

## NMOS
designator Q?
pins: 1 G, 2 S, 3 D

## NMOS_2S2G2D
designator T?
part A pins: 1 S1, 2 G1, 6 D1
part B pins: 3 D1, 4 S1, 5 G1

## OSC-4
designator OSC?
pins: 1 OE/~{ST} (in), 2 GND (power), 3 OUT (out), 4 VDD (power)

## PCA9517DGK_0
designator U?
footprint SSOP8-065-3_8
pins: 1 B2, 2 GND, 3 VCCA, 4 A2, 5 A1, 6 0E, 7 VCCB, 8 B1

## PCA9517DGK_1
designator U?
footprint SSOP8-065-3_8
pins: 1 B2, 2 GND, 3 VCCA, 4 A2, 5 A1, 6 0E, 7 VCCB, 8 B1

## PCMF1USB30_0
designator U?
pins: A1 IN+, A2 IN-, B1 GND, C1 OUT+, C2 OUT-

## PCMF1USB30_1
designator U?
pins: A1 IN+, A2 IN-, B1 GND, C1 OUT+, C2 OUT-

## PCMF1USB30_2
designator U?
pins: A1 IN+, A2 IN-, B1 GND, C1 OUT+, C2 OUT-

## PCMF2HDMI2S
designator U?
CLASS: IC
pins: A1 CH1_IN+ (in), A2 CH1_IN- (in), A3 CH2_IN+ (in), A4 CH2_IN- (in), B1 GND_CH1 (power), B2 GND_CH2 (power), C1 CH1_OUT+ (out), C2 CH1_OUT- (out), C3 CH2_OUT+ (out), C4 CH2_OUT- (out)
text: CMF+ESD

## PCMF2USB30
designator U?
pins: A1 CH1_IN+, A2 CH1_IN-, A3 CH2_IN+, A4 CH2_IN-, B1 GND_CH1, B2 GND_CH2, C1 CH1_OUT+, C2 CH1_OUT-, C3 CH2_OUT+, C4 CH2_OUT-

## Pi3USB3102_0
designator U?
pins: 1 TX+, 2 TX-, 3 VDD1, 4 RX+, 5 RX-, 6 DP, 7 DN, 8 USB_ID, 9 VDD2, 10 SS_SEL, 11 OE, 12 VDD3, 13 USB_IDB, 14 DNB, 15 DPB, 16 VDD4, 17 USB_IDA, 18 DNA, 19 DPA, 20 VDD5, 21 GND1, 22 RXNB, 23 RXPB, 24 TXNB, 25 TXPB, 26 RXNA, 27 RXPA, 28 GND2, 29 VDD6, 30 TXNA, 31 TXPA, 32 HS_SEL, 33 GNDPAD

## PI3USB3102ZLE
designator U?
pins: 1 TX+, 2 TX-, 3 VDD1, 4 RX+, 5 RX-, 6 DP, 7 DN, 8 USB_ID, 9 VDD2, 10 SS_SEL, 11 OE, 12 VDD3, 13 USB_IDB, 14 DNB, 15 DPB, 16 VDD4, 17 USB_IDA, 18 DNA, 19 DPA, 20 VDD5, 21 GND1, 22 RXNB, 23 RXPB, 24 TXNB, 25 TXPB, 26 RXNA, 27 RXPA, 28 GND2, 29 VDD6, 30 TXNA, 31 TXPA, 32 HS_SEL, 33 GNDPAD

## PMOS_2S1G5D
designator Q?
pins: 1 D3, 2 D4, 3 G, 4 S1, 5 D1, 6 D2, 7 D5, 8 S2

## PNP
designator Q?
pins: 1 B (in), 2 E, 3 C

## PSW4
designator S?
pins: 1, 2, 3, 4

## R
designator R?
pins: 1, 2

## RJ45-18-1X1-L2_0
designator J?
pins: 1 TD1+, 2 TD1-, 3 TD2+, 4 TD2- (power), 5 TCT, 6 RCT, 7 RD1+, 8 RD1-, 9 RD2+, 10 RD2-, 11 GRL+/OG-, 12 GRL-/OG+, 13 YEL-, 14 YEL+, 15 GND (power), 16 GND (power), 17 NC1, 18 NC2

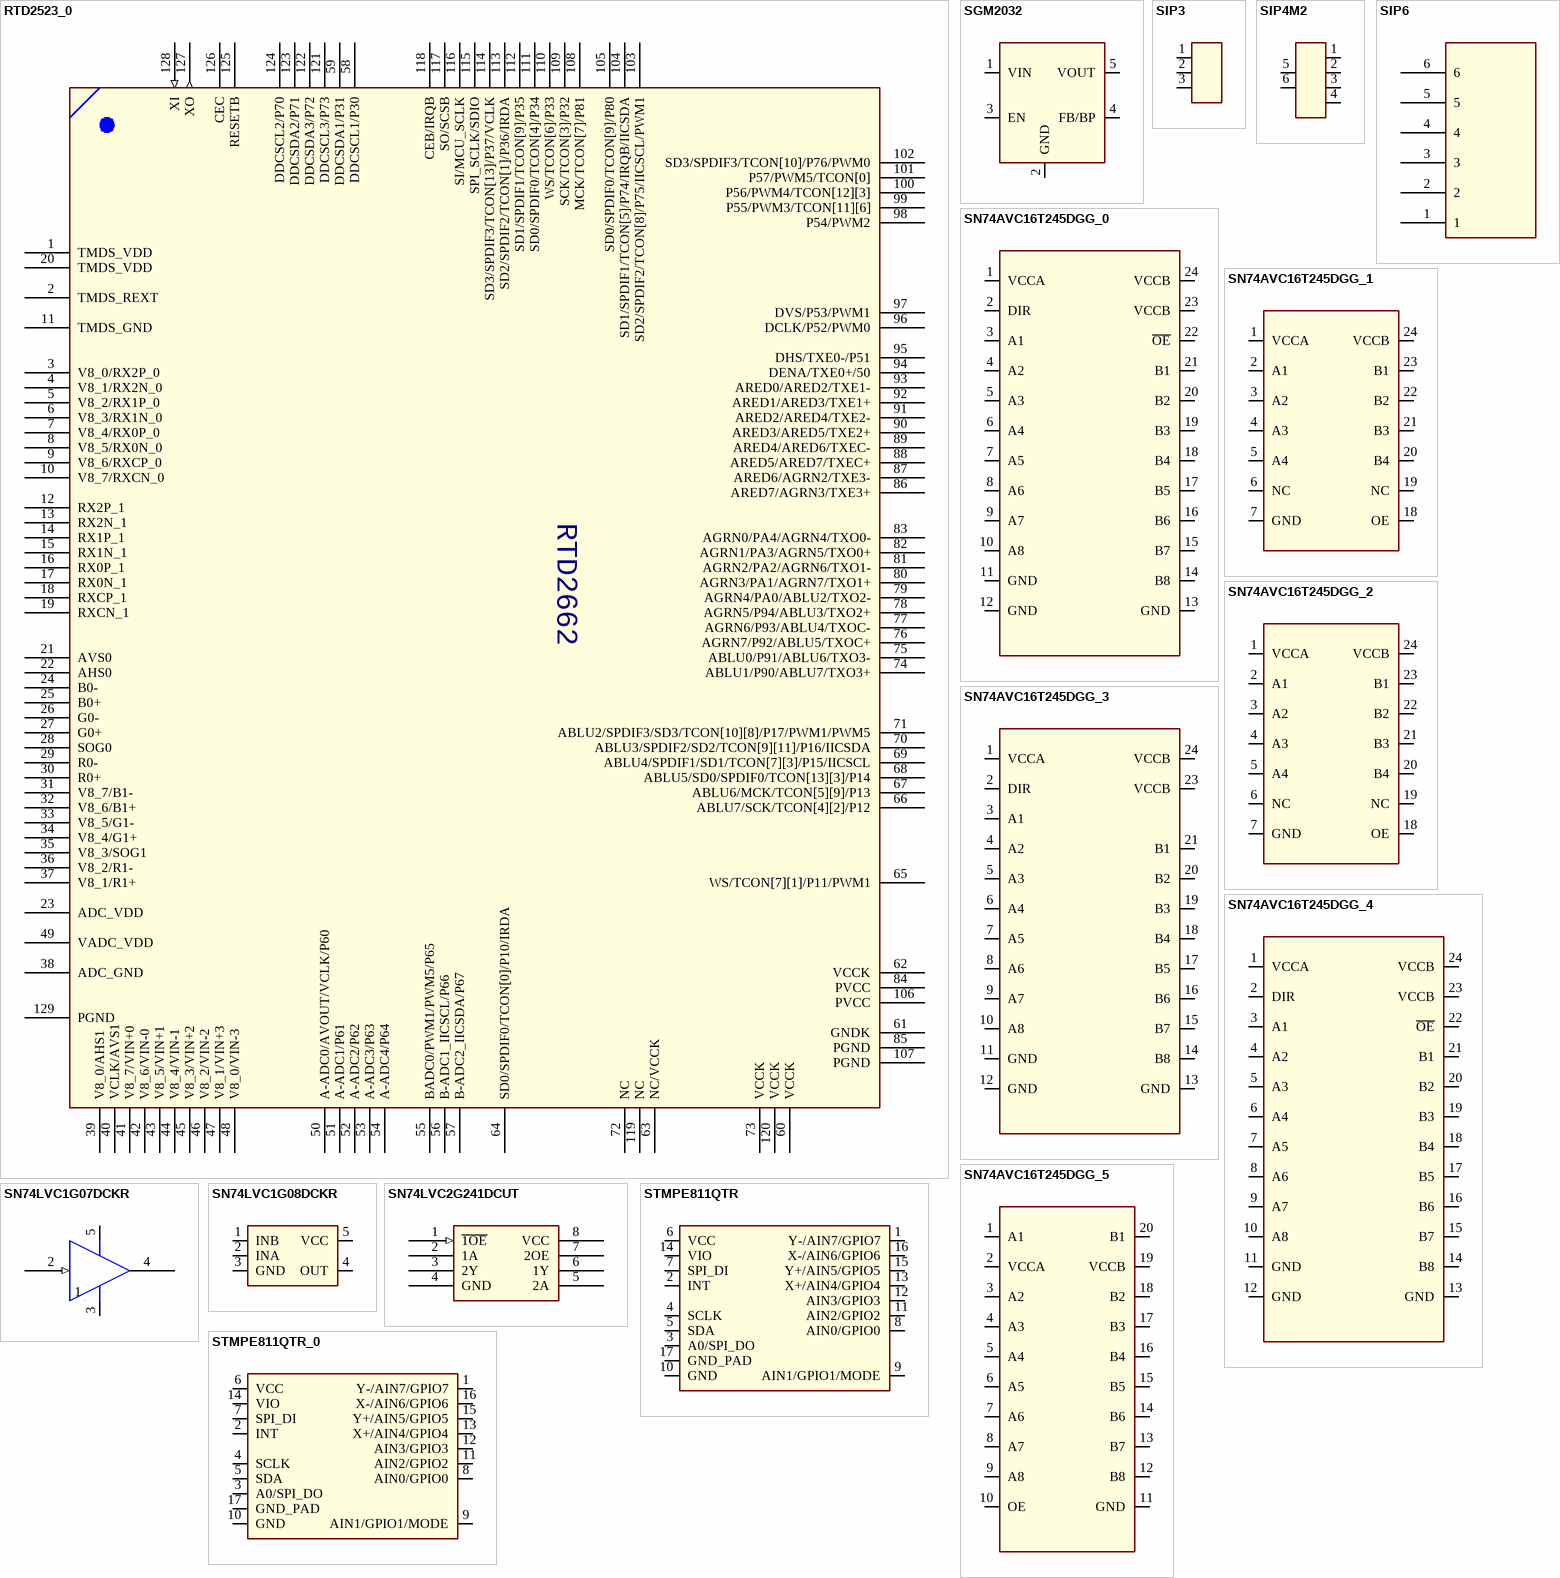
[diagram p154: symbols RTD2523_0 to STMPE811QTR_0]

## RTD2523_0
designator U?, comment RTD2553V  (value not drawn)
pins: 1 TMDS_VDD (power), 2 TMDS_REXT, 3 V8_0/RX2P_0, 4 V8_1/RX2N_0, 5 V8_2/RX1P_0, 6 V8_3/RX1N_0, 7 V8_4/RX0P_0, 8 V8_5/RX0N_0, 9 V8_6/RXCP_0, 10 V8_7/RXCN_0, 11 TMDS_GND (power), 12 RX2P_1, 13 RX2N_1, 14 RX1P_1, 15 RX1N_1, 16 RX0P_1, 17 RX0N_1, 18 RXCP_1, 19 RXCN_1, 20 TMDS_VDD (power), 21 AVS0, 22 AHS0, 23 ADC_VDD (power), 24 B0-, 25 B0+, 26 G0-, 27 G0+, 28 SOG0, 29 R0-, 30 R0+, 31 V8_7/B1-, 32 V8_6/B1+, 33 V8_5/G1-, 34 V8_4/G1+, 35 V8_3/SOG1, 36 V8_2/R1-, 37 V8_1/R1+, 38 ADC_GND (power), 39 V8_0/AHS1, 40 VCLK/AVS1, 41 V8_7/VIN+0, 42 V8_6/VIN-0, 43 V8_5/VIN+1, 44 V8_4/VIN-1, 45 V8_3/VIN+2, 46 V8_2/VIN-2, 47 V8_1/VIN+3, 48 V8_0/VIN-3, 49 VADC_VDD (power), 50 A-ADC0/AVOUT/VCLK/P60, 51 A-ADC1/P61, 52 A-ADC2/P62, 53 A-ADC3/P63, 54 A-ADC4/P64, 55 BADC0/PWM1/PWM5/P65, 56 B-ADC1_IICSCL/P66, 57 B-ADC2_IICSDA/P67, 58 DDCSCL1/P30, 59 DDCSDA1/P31, 60 VCCK (power), 61 GNDK (power), 62 VCCK (power), 63 NC/VCCK, 64 SD0/SPDIF0/TCON[0]/P10/IRDA, 65 WS/TCON[7][1]/P11/PWM1, 66 ABLU7/SCK/TCON[4][2]/P12, 67 ABLU6/MCK/TCON[5][9]/P13, 68 ABLU5/SD0/SPDIF0/TCON[13][3]/P14, 69 ABLU4/SPDIF1/SD1/TCON[7][3]/P15/IICSCL, 70 ABLU3/SPDIF2/SD2/TCON[9][11]/P16/IICSDA, 71 ABLU2/SPDIF3/SD3/TCON[10][8]/P17/PWM1/PWM5, 72 NC, 73 VCCK (power), 74 ABLU1/P90/ABLU7/TXO3+, 75 ABLU0/P91/ABLU6/TXO3-, 76 AGRN7/P92/ABLU5/TXOC+, 77 AGRN6/P93/ABLU4/TXOC-, 78 AGRN5/P94/ABLU3/TXO2+, 79 AGRN4/PA0/ABLU2/TXO2-, 80 AGRN3/PA1/AGRN7/TXO1+, 81 AGRN2/PA2/AGRN6/TXO1-, 82 AGRN1/PA3/AGRN5/TXO0+, 83 AGRN0/PA4/AGRN4/TXO0-, 84 PVCC (power), 85 PGND (power), 86 ARED7/AGRN3/TXE3+, 87 ARED6/AGRN2/TXE3-, 88 ARED5/ARED7/TXEC+, 89 ARED4/ARED6/TXEC-, 90 ARED3/ARED5/TXE2+, 91 ARED2/ARED4/TXE2-, 92 ARED1/ARED3/TXE1+, 93 ARED0/ARED2/TXE1-, 94 DENA/TXE0+/50, 95 DHS/TXE0-/P51, 96 DCLK/P52/PWM0, 97 DVS/P53/PWM1, 98 P54/PWM2, 99 P55/PWM3/TCON[11][6], 100 P56/PWM4/TCON[12][3], 101 P57/PWM5/TCON[0], 102 SD3/SPDIF3/TCON[10]/P76/PWM0, 103 SD2/SPDIF2/TCON[8]/P75/IICSCL/PWM1, 104 SD1/SPDIF1/TCON[5]/P74/IRQB/IICSDA, 105 SD0/SPDIF0/TCON[9]/P80, 106 PVCC (power), 107 PGND (power), 108 MCK/TCON[7]/P81, 109 SCK/TCON[3]/P32, 110 WS/TCON[6]/P33, 111 SD0/SPDIF0/TCON[4]/P34, 112 SD1/SPDIF1/TCON[9]/P35, 113 SD2/SPDIF2/TCON[1]/P36/IRDA, 114 SD3/SPDIF3/TCON[13]/P37/VCLK, 115 SPI_SCLK/SDIO, 116 SI/MCU_SCLK, 117 SO/SCSB, 118 CEB/IRQB, 119 NC, 120 VCCK (power), 121 DDCSCL3/P73, 122 DDCSDA3/P72, 123 DDCSDA2/P71, 124 DDCSCL2/P70, 125 RESETB, 126 CEC, 127 XO (out), 128 XI (in), 129 PGND (power)
text: RTD2662

## SGM2032
designator U?
pins: 1 VIN, 2 GND, 3 EN, 4 FB/BP, 5 VOUT

## SIP3
designator J?
pins: 1, 2, 3

## SIP4M2
designator J?
pins: 1, 2, 3, 4, 5, 6

## SIP6
designator J?
pins: 1, 2, 3, 4, 5, 6

## SN74AVC16T245DGG_0
designator U?
pins: 1 VCCA (power), 2 DIR, 3 A1, 4 A2, 5 A3, 6 A4, 7 A5, 8 A6, 9 A7, 10 A8, 11 GND (power), 12 GND (power), 13 GND (power), 14 B8, 15 B7, 16 B6, 17 B5, 18 B4, 19 B3, 20 B2, 21 B1, 22 ~{OE} (power), 23 VCCB (power), 24 VCCB (power)

## SN74AVC16T245DGG_1
designator U?
pins: 1 VCCA (power), 2 A1, 3 A2, 4 A3, 5 A4, 6 NC, 7 GND (power), 18 OE, 19 NC, 20 B4, 21 B3, 22 B2 (power), 23 B1 (power), 24 VCCB (power)

## SN74AVC16T245DGG_2
designator U?
pins: 1 VCCA (power), 2 A1, 3 A2, 4 A3, 5 A4, 6 NC, 7 GND (power), 18 OE, 19 NC, 20 B4, 21 B3, 22 B2, 23 B1, 24 VCCB (power)

## SN74AVC16T245DGG_3
designator U?
pins: 1 VCCA (power), 2 DIR, 3 A1, 4 A2, 5 A3, 6 A4, 7 A5, 8 A6, 9 A7, 10 A8, 11 GND (power), 12 GND (power), 13 GND (power), 14 B8, 15 B7, 16 B6, 17 B5, 18 B4, 19 B3, 20 B2, 21 B1, 22 ~{OE} (power) hidden, 23 VCCB (power), 24 VCCB (power)

## SN74AVC16T245DGG_4
designator U?
pins: 1 VCCA (power), 2 DIR, 3 A1, 4 A2, 5 A3, 6 A4, 7 A5, 8 A6, 9 A7, 10 A8, 11 GND (power), 12 GND (power), 13 GND (power), 14 B8, 15 B7, 16 B6, 17 B5, 18 B4, 19 B3, 20 B2, 21 B1, 22 ~{OE} (power), 23 VCCB (power), 24 VCCB (power)

## SN74AVC16T245DGG_5
designator U?
pins: 1 A1, 2 VCCA (power), 3 A2, 4 A3, 5 A4, 6 A5, 7 A6, 8 A7, 9 A8, 10 OE, 11 GND (power), 12 B8, 13 B7, 14 B6, 15 B5, 16 B4, 17 B3, 18 B2, 19 VCCB (power), 20 B1

## SN74LVC1G07DCKR
designator U?
pins: 1 NC, 2 A (in), 3 GND (power), 4 Y (oc), 5 VCC (power)

## SN74LVC1G08DCKR
designator U?
pins: 1 INB, 2 INA, 3 GND, 4 OUT, 5 VCC
1 alternate drawing of the same symbol

## SN74LVC2G241DCUT
designator U?
PN: 1002008100076
pins: 1 ~{1OE} (in), 2 1A, 3 2Y, 4 GND (power), 5 2A, 6 1Y, 7 2OE, 8 VCC (power)

## STMPE811QTR
designator U?
pins: 1 Y-/AIN7/GPIO7, 2 INT, 3 A0/SPI_DO, 4 SCLK, 5 SDA, 6 VCC, 7 SPI_DI, 8 AIN0/GPIO0, 9 AIN1/GPIO1/MODE, 10 GND, 11 AIN2/GPIO2, 12 AIN3/GPIO3, 13 X+/AIN4/GPIO4, 14 VIO, 15 Y+/AIN5/GPIO5, 16 X-/AIN6/GPIO6, 17 GND_PAD

## STMPE811QTR_0
designator U?
pins: 1 Y-/AIN7/GPIO7, 2 INT, 3 A0/SPI_DO, 4 SCLK, 5 SDA, 6 VCC, 7 SPI_DI, 8 AIN0/GPIO0, 9 AIN1/GPIO1/MODE, 10 GND, 11 AIN2/GPIO2, 12 AIN3/GPIO3, 13 X+/AIN4/GPIO4, 14 VIO, 15 Y+/AIN5/GPIO5, 16 X-/AIN6/GPIO6, 17 GND_PAD

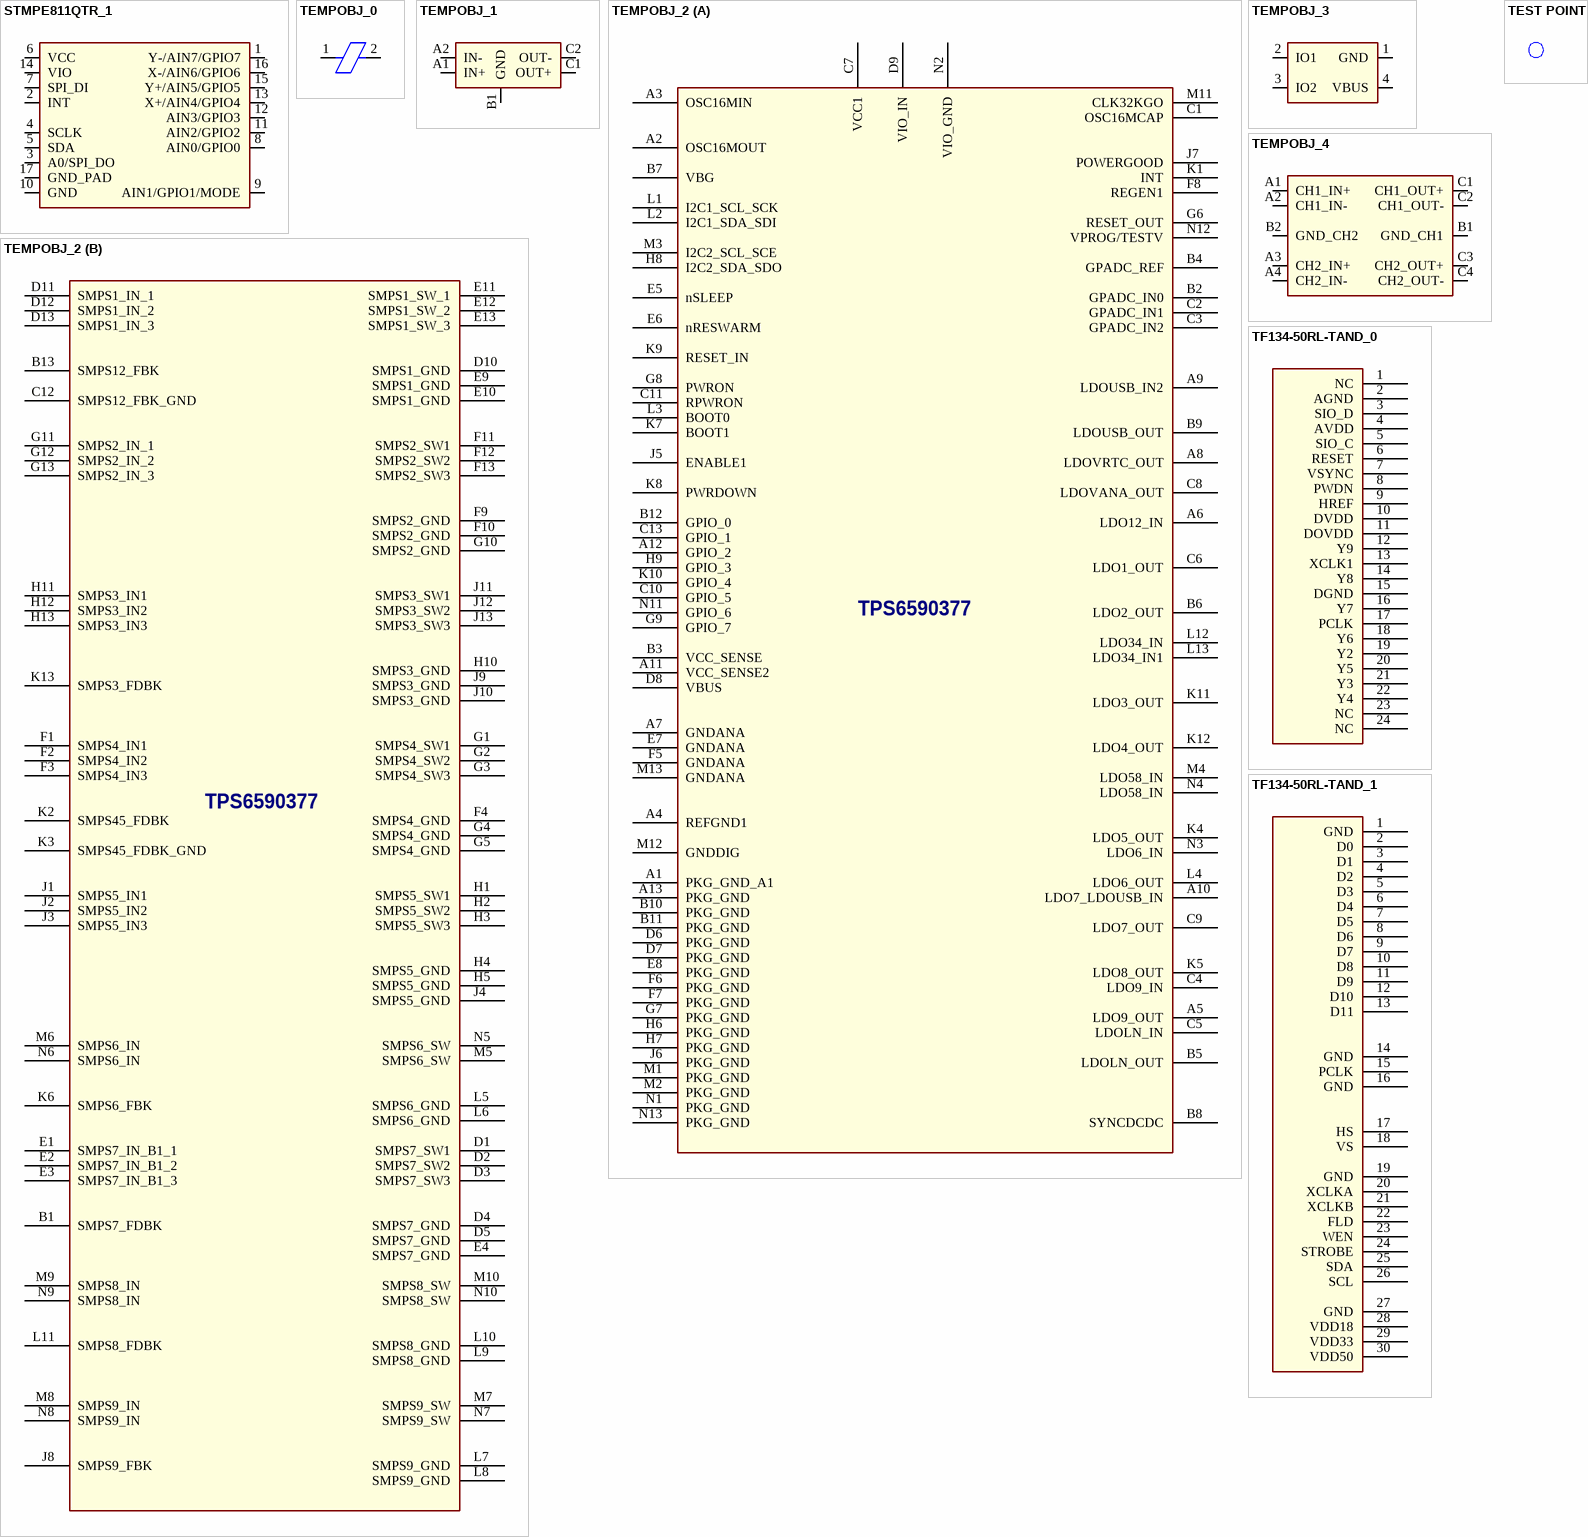
[diagram p155: symbols STMPE811QTR_1 to TF134-50RL-TAND_1]

## STMPE811QTR_1
designator U?
pins: 1 Y-/AIN7/GPIO7, 2 INT, 3 A0/SPI_DO, 4 SCLK, 5 SDA, 6 VCC, 7 SPI_DI, 8 AIN0/GPIO0, 9 AIN1/GPIO1/MODE, 10 GND, 11 AIN2/GPIO2, 12 AIN3/GPIO3, 13 X+/AIN4/GPIO4, 14 VIO, 15 Y+/AIN5/GPIO5, 16 X-/AIN6/GPIO6, 17 GND_PAD

## TEMPOBJ_0
designator FB?
pins: 1, 2

## TEMPOBJ_1
designator U?
pins: A1 IN+, A2 IN-, B1 GND, C1 OUT+, C2 OUT-